# Altium schematic symbol library IC.SchLib: 142 symbols
Pins are listed as number, name and electrical type; pins without a type are passive.

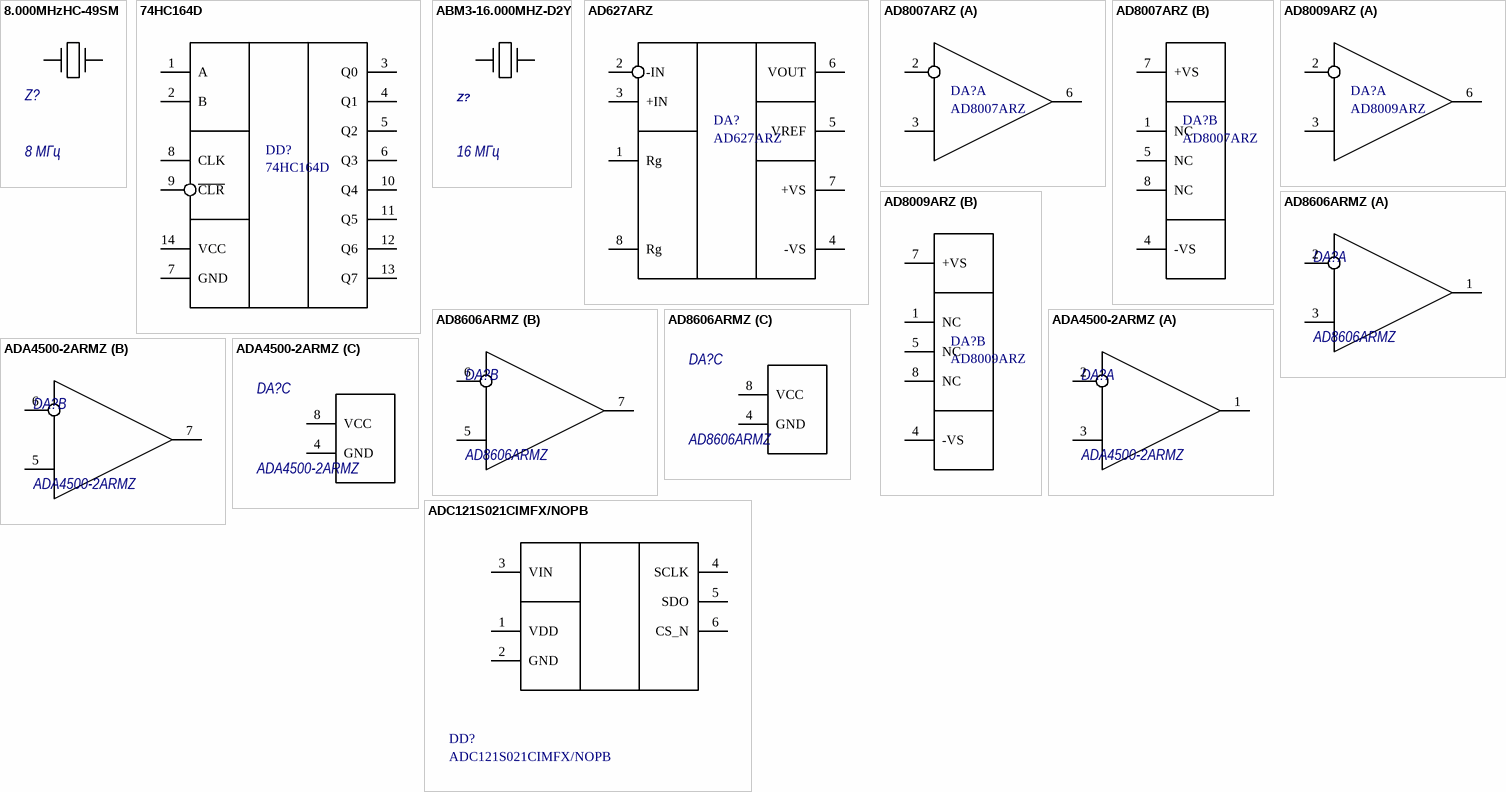
[diagram p0: symbols 8.000MHzHC-49SM to ADC121S021CIMFX/NOPB]

## 8.000MHzHC-49SM
designator Z?, comment 8 МГц
8.000MHzHC-49SM; Part Number: 8.000MHzHC-49SM; Value: 8 МГц; ComponentLink1Description: Datasheet; Manufacturer: -; Type: Quartz
footprint HC-49SM (Footprint not found)
pins: 1 OSC1, 2 OSC2

## 74HC164D
designator DD?
8-bit serial-in, parallel-out shift register; Manufacturer: Nexperia; Part Number: 74HC164D; Type: Logic
footprint SOT108-1_NEX
pins: 1 A, 2 B, 3 Q0, 4 Q1, 5 Q2, 6 Q3, 7 GND, 8 CLK, 9 ~{CLR}, 10 Q4, 11 Q5, 12 Q6, 13 Q7, 14 VCC

## ABM3-16.000MHZ-D2Y
designator Z?, comment 16 МГц
ABM3-16.000MHZ-D2Y; Manufacturer: ABRACON; Part Number: ABM3-16.000MHZ-D2Y; Value: 16 МГц; ComponentLink1Description: Datasheet; Type: Quartz
footprint ABM3
pins: 1 OSC1, 2 OSC2

## AD627ARZ
designator DA?
InstAMP; Manufacturer: Analog Devices Inc; Part Number: AD627ARZ; Type: InstAMP
footprint SOIC-8
pins: 1 Rg, 2 -IN, 3 +IN, 4 -VS (power), 5 VREF, 6 VOUT, 7 +VS (power), 8 Rg

## AD8007ARZ
designator DA?
OpAMP CFB; Manufacturer: Analog Devices; Part Number: AD8007ARZ; Type: OpAMP
footprint SOIC-8
part A pins: 2 -IN, 3 +IN, 6 VOUT
part B pins: 1 NC, 4 -VS (power), 5 NC, 7 +VS (power), 8 NC

## AD8009ARZ
designator DA?
OpAMP CFB; Manufacturer: Analog Devices; Part Number: AD8009ARZ; Type: OpAMP
footprint SOIC-8
part A pins: 2 -IN, 3 +IN, 6 VOUT
part B pins: 1 NC, 4 -VS (power), 5 NC, 7 +VS (power), 8 NC

## AD8606ARMZ
designator DA?
OpAMP VFB; Manufacturer: Analog Devices Inc; Part Number: AD8606ARMZ; Type: OpAMP; ComponentLink1Description: Datasheet
footprint MSOP-8
part A pins: 1 OUT, 2 IN-, 3 IN+
part B pins: 5 IN+, 6 IN-, 7 OUT
part C pins: 4 GND, 8 VCC

## ADA4500-2ARMZ
designator DA?
OpAMP VFB; Manufacturer: Analog Devices Inc; Part Number: ADA4500-2ARMZ; Type: OpAMP; ComponentLink1Description: Datasheet
footprint MSOP-8
part A pins: 1 OUT, 2 IN-, 3 IN+
part B pins: 5 IN+, 6 IN-, 7 OUT
part C pins: 4 GND, 8 VCC

## ADC121S021CIMFX/NOPB
designator DD?
ADC; Manufacturer: Texas Instruments; Type: ADC; Part Number: ADC121S021CIMFX/NOPB
footprint SOT23-6
pins: 1 VDD, 2 GND, 3 VIN, 4 SCLK, 5 SDO, 6 CS_N

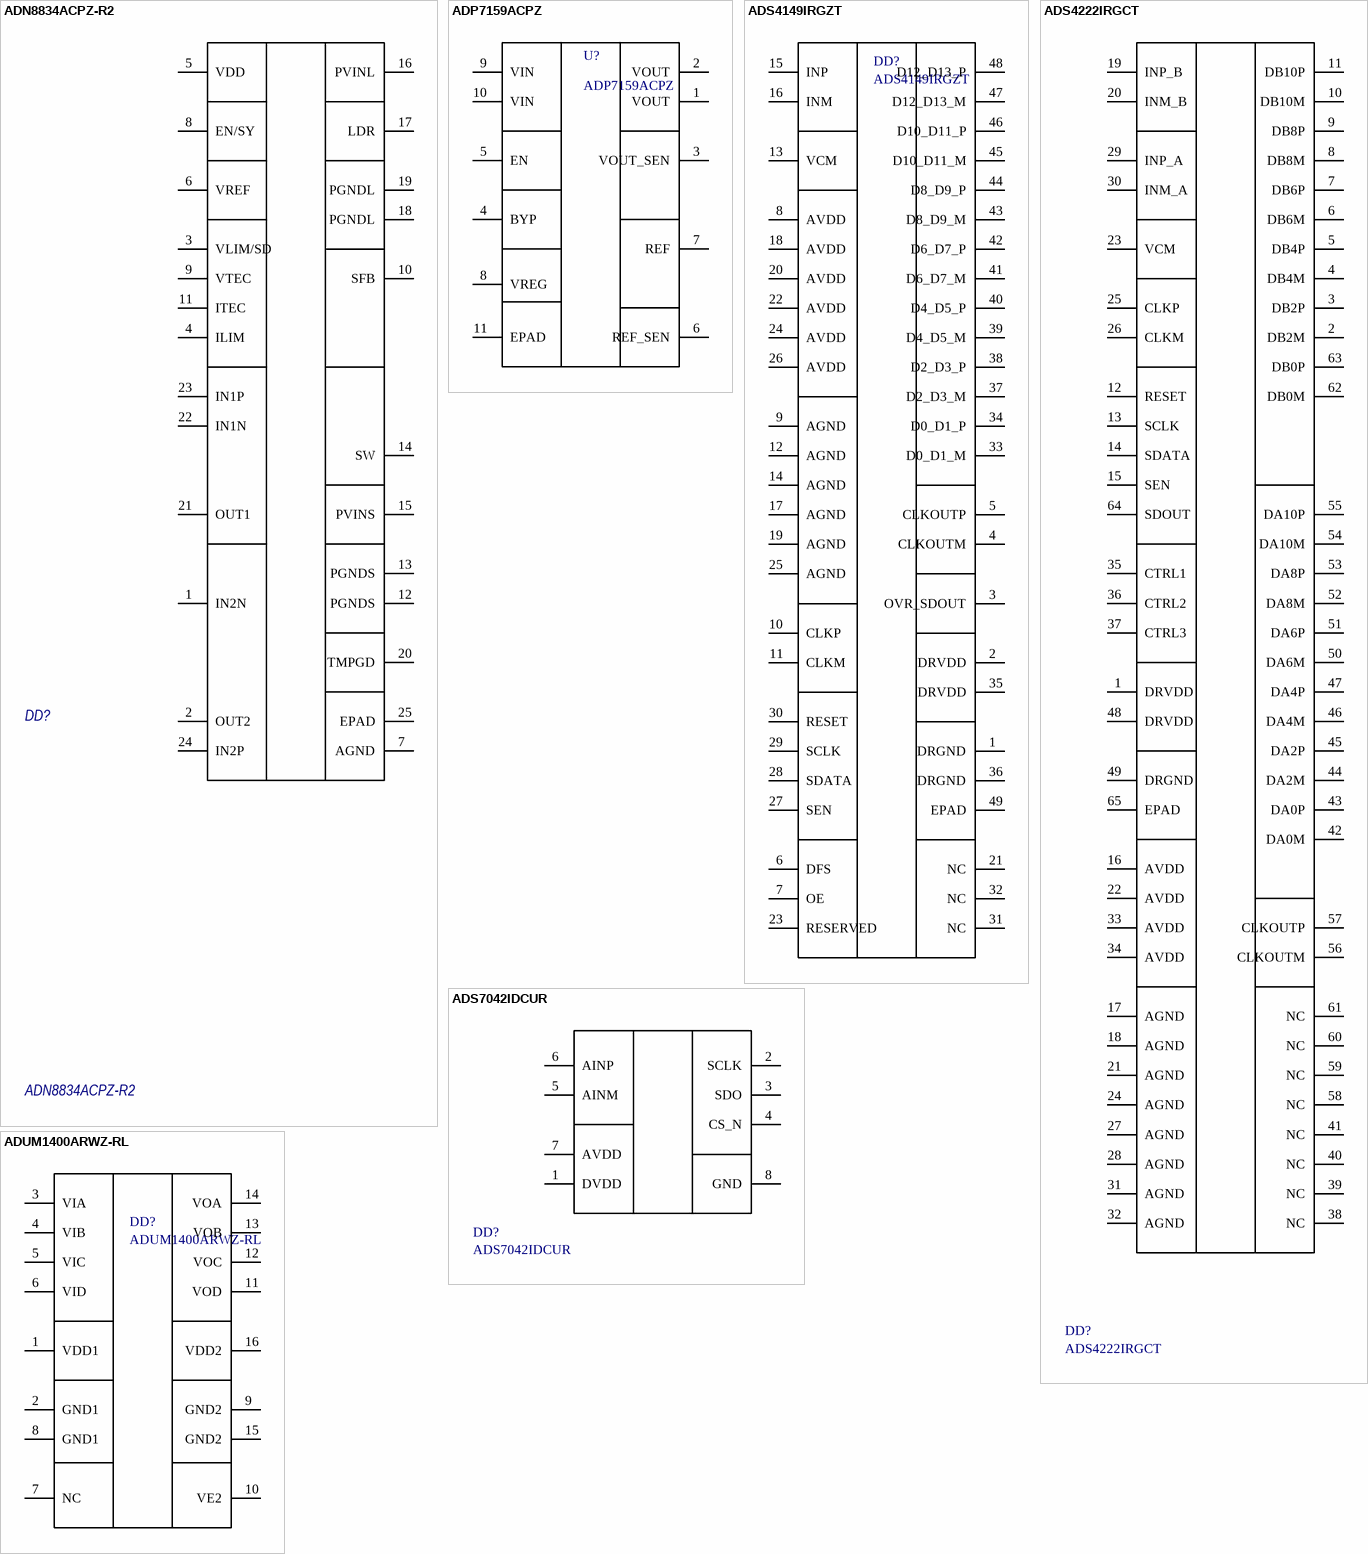
[diagram p1: symbols ADN8834ACPZ-R2 to ADUM1400ARWZ-RL]

## ADN8834ACPZ-R2
designator DD?
Ultracompact, 1.5 A Thermoelectric Cooler / (TEC) Controller; Manufacturer: Analog Devices; Part Number: ADN8834ACPZ-R2; Type: Special; ComponentLink1Description: Datasheet
footprint QFN24
pins: 1 IN2N, 2 OUT2, 3 VLIM/SD, 4 ILIM, 5 VDD, 6 VREF, 7 AGND, 8 EN/SY, 9 VTEC, 10 SFB, 11 ITEC, 12 PGNDS, 13 PGNDS, 14 SW, 15 PVINS, 16 PVINL, 17 LDR, 18 PGNDL, 19 PGNDL, 20 TMPGD, 21 OUT1, 22 IN1N, 23 IN1P, 24 IN2P, 25 EPAD

## ADP7159ACPZ
designator U?
No Description Available; Manufacturer: Analog Devices Inc; Part Number: ADP7159ACPZ; Type: DEV
footprint LFCSP(10)3x3
pins: 1 VOUT, 2 VOUT, 3 VOUT_SEN, 4 BYP, 5 EN, 6 REF_SEN, 7 REF, 8 VREG, 9 VIN, 10 VIN, 11 EPAD

## ADS4149IRGZT
designator DD?
ADC; Manufacturer: Texas Instruments; Part Number: ADS4149IRGZT; Type: ADC
footprint VQFN-48
pins: 1 DRGND, 2 DRVDD, 3 OVR_SDOUT, 4 CLKOUTM, 5 CLKOUTP, 6 DFS, 7 OE, 8 AVDD, 9 AGND, 10 CLKP, 11 CLKM, 12 AGND, 13 VCM, 14 AGND, 15 INP, 16 INM, 17 AGND, 18 AVDD, 19 AGND, 20 AVDD, 21 NC, 22 AVDD, 23 RESERVED, 24 AVDD, 25 AGND, 26 AVDD, 27 SEN, 28 SDATA, 29 SCLK, 30 RESET, 31 NC, 32 NC, 33 D0_D1_M, 34 D0_D1_P, 35 DRVDD, 36 DRGND, 37 D2_D3_M, 38 D2_D3_P, 39 D4_D5_M, 40 D4_D5_P, 41 D6_D7_M, 42 D6_D7_P, 43 D8_D9_M, 44 D8_D9_P, 45 D10_D11_M, 46 D10_D11_P, 47 D12_D13_M, 48 D12_D13_P, 49 EPAD

## ADS4222IRGCT
designator DD?
ADC; Manufacturer: Texas Instruments; Part Number: ADS4222IRGCT; Type: ADC
footprint RGC64_7P4X7P4
pins: 1 DRVDD, 2 DB2M, 3 DB2P, 4 DB4M, 5 DB4P, 6 DB6M, 7 DB6P, 8 DB8M, 9 DB8P, 10 DB10M, 11 DB10P, 12 RESET, 13 SCLK, 14 SDATA, 15 SEN, 16 AVDD, 17 AGND, 18 AGND, 19 INP_B, 20 INM_B, 21 AGND, 22 AVDD, 23 VCM, 24 AGND, 25 CLKP, 26 CLKM, 27 AGND, 28 AGND, 29 INP_A, 30 INM_A, 31 AGND, 32 AGND, 33 AVDD, 34 AVDD, 35 CTRL1, 36 CTRL2, 37 CTRL3, 38 NC, 39 NC, 40 NC, 41 NC, 42 DA0M, 43 DA0P, 44 DA2M, 45 DA2P, 46 DA4M, 47 DA4P, 48 DRVDD, 49 DRGND, 50 DA6M, 51 DA6P, 52 DA8M, 53 DA8P, 54 DA10M, 55 DA10P, 56 CLKOUTM, 57 CLKOUTP, 58 NC, 59 NC, 60 NC, 61 NC, 62 DB0M, 63 DB0P, 64 SDOUT, 65 EPAD

## ADS7042IDCUR
designator DD?
ADC; Manufacturer: Texas Instruments; Type: ADC; Part Number: ADS7042IDCUR
footprint DCU0008A_N
pins: 1 DVDD, 2 SCLK, 3 SDO, 4 CS_N, 5 AINM, 6 AINP, 7 AVDD, 8 GND

## ADUM1400ARWZ-RL
designator DD?
ISO; Manufacturer: Analog Devices; Part Number: ADUM1400ARWZ-RL; Type: ISO
footprint SOIC-Wide-16
pins: 1 VDD1, 2 GND1, 3 VIA, 4 VIB, 5 VIC, 6 VID, 7 NC, 8 GND1, 9 GND2, 10 VE2, 11 VOD, 12 VOC, 13 VOB, 14 VOA, 15 GND2, 16 VDD2

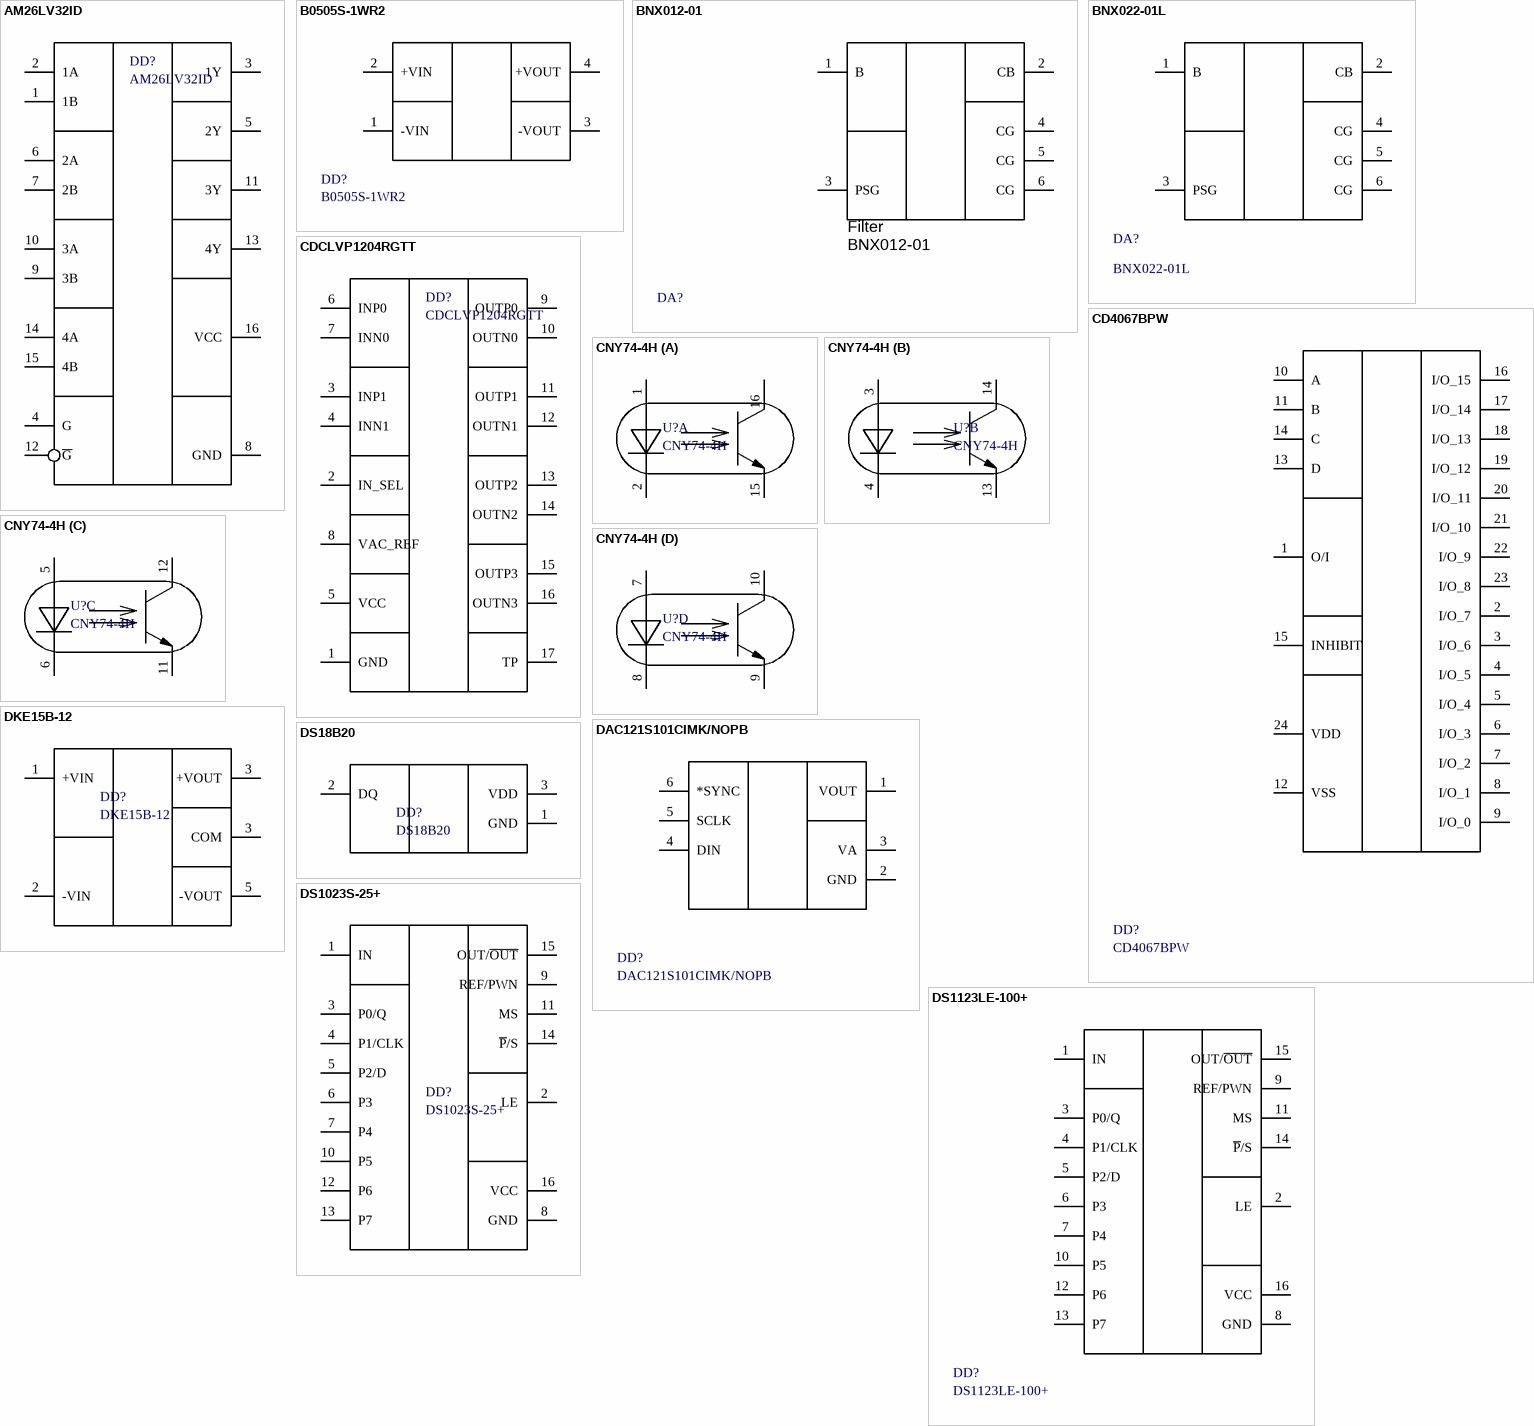
[diagram p2: symbols AM26LV32ID to DS1123LE-100+]

## AM26LV32ID
designator DD?
High-Speed Quadruple Differential Line Receiver; Manufacturer: Texas Instruments; Part Number: AM26LV32ID; Type: Logic
footprint SOIC-16
pins: 1 1B, 2 1A, 3 1Y, 4 G, 5 2Y, 6 2A, 7 2B, 8 GND, 9 3B, 10 3A, 11 3Y, 12 ~{G}, 13 4Y, 14 4A, 15 4B, 16 VCC

## B0505S-1WR2
designator DD?
Switching regulator, 5V; Manufacturer: Mornsun; Part Number: B0505S-1WR2; Type: ISO DC/DC
footprint TME-1W-SINGLE
pins: 1 -VIN (power), 2 +VIN (power), 3 -VOUT (power), 4 +VOUT (power)

## BNX012-01
designator DA?  Type: Filter  (hidden comment: BNX012-01)
LC EMI Filter 5th Order Low Pass 2 Channel 15A Block, 4 Lead; Manufacturer: Murata; Part Number: BNX012-01
footprint FIL_BNX012-01
pins: 1 B, 2 CB, 3 PSG, 4 CG, 5 CG, 6 CG

## BNX022-01L
designator DA?
LC EMI Filter 5th Order Low Pass 2 Channel C = 1ÂµF 20A 4-SMD, No Lead; Manufacturer: Murata; Part Number: BNX022-01L; Type: Filter
footprint FIL_BNX022-01L
pins: 1 B, 2 CB, 3 PSG, 4 CG, 5 CG, 6 CG

## CD4067BPW
designator DD?
Multiplexers/Demultiplexers; Manufacturer: Texas Instruments; Part Number: CD4067BPW; Type: Logic
footprint PW24
pins: 1 O/I, 2 I/O_7, 3 I/O_6, 4 I/O_5, 5 I/O_4, 6 I/O_3, 7 I/O_2, 8 I/O_1, 9 I/O_0, 10 A, 11 B, 12 VSS, 13 D, 14 C, 15 INHIBIT, 16 I/O_15, 17 I/O_14, 18 I/O_13, 19 I/O_12, 20 I/O_11, 21 I/O_10, 22 I/O_9, 23 I/O_8, 24 VDD

## CDCLVP1204RGTT
designator DD?
Clock buffers; Manufacturer: Texas Instruments; Part Number: CDCLVP1204RGTT; Type: Clock buffers
footprint VQFN(16)3x3
pins: 1 GND, 2 IN_SEL, 3 INP1, 4 INN1, 5 VCC, 6 INP0, 7 INN0, 8 VAC_REF, 9 OUTP0, 10 OUTN0, 11 OUTP1, 12 OUTN1, 13 OUTP2, 14 OUTN2, 15 OUTP3, 16 OUTN3, 17 TP

## CNY74-4H
designator U?
Optocoupler, Phototransistor; Manufacturer: Vishay; Part Number: CNY74-4H; Type: Optocoupler
footprint DIP16 (Footprint not found)
part A pins: 1 A, 2 C, 15 C, 16 E
part B pins: 3 C, 4 A, 13 E, 14 C
part C pins: 5 A, 6 C, 11 C, 12 E
part D pins: 7 C, 8 A, 9 E, 10 C

## DAC121S101CIMK/NOPB
designator DD?
No Description Available; Manufacturer: Texas Instrument; Part Number: DAC121S101CIMK/NOPB; Type: DAC
footprint SOT23-6
pins: 1 VOUT, 2 GND, 3 VA, 4 DIN, 5 SCLK, 6 *SYNC

## DKE15B-12
designator DD?
ISO DC/DC, +- 12V; Manufacturer: MEAN WELL; Part Number: DKE15B-12; Type: ISO DC/DC
footprint DKE-15
pins: 1 +VIN (power), 2 -VIN (power), 3 +VOUT (power), 3 COM (power), 5 -VOUT (power)

## DS18B20
designator DD?
Manufacturer: MAXIM; Part Number: DS18B20; Type: TEMP
footprint TO-92
pins: 1 GND, 2 DQ, 3 VDD

## DS1023S-25+
designator DD?
Delay; Manufacturer: Maxim Integrated Products; Part Number: DS1023S-25+; Type: Logic
footprint SOIC-Wide-16
pins: 1 IN, 2 LE, 3 P0/Q, 4 P1/CLK, 5 P2/D, 6 P3, 7 P4, 8 GND, 9 REF/PWN, 10 P5, 11 MS, 12 P6, 13 P7, 14 ~{P}/S, 15 OUT/~{OUT}, 16 VCC

## DS1123LE-100+
designator DD?
Delay; Manufacturer: Maxim Integrated Products; Part Number: DS1123LE-100+; Type: Logic
footprint 21-0066J_16_MXM
pins: 1 IN, 2 LE, 3 P0/Q, 4 P1/CLK, 5 P2/D, 6 P3, 7 P4, 8 GND, 9 REF/PWN, 10 P5, 11 MS, 12 P6, 13 P7, 14 ~{P}/S, 15 OUT/~{OUT}, 16 VCC

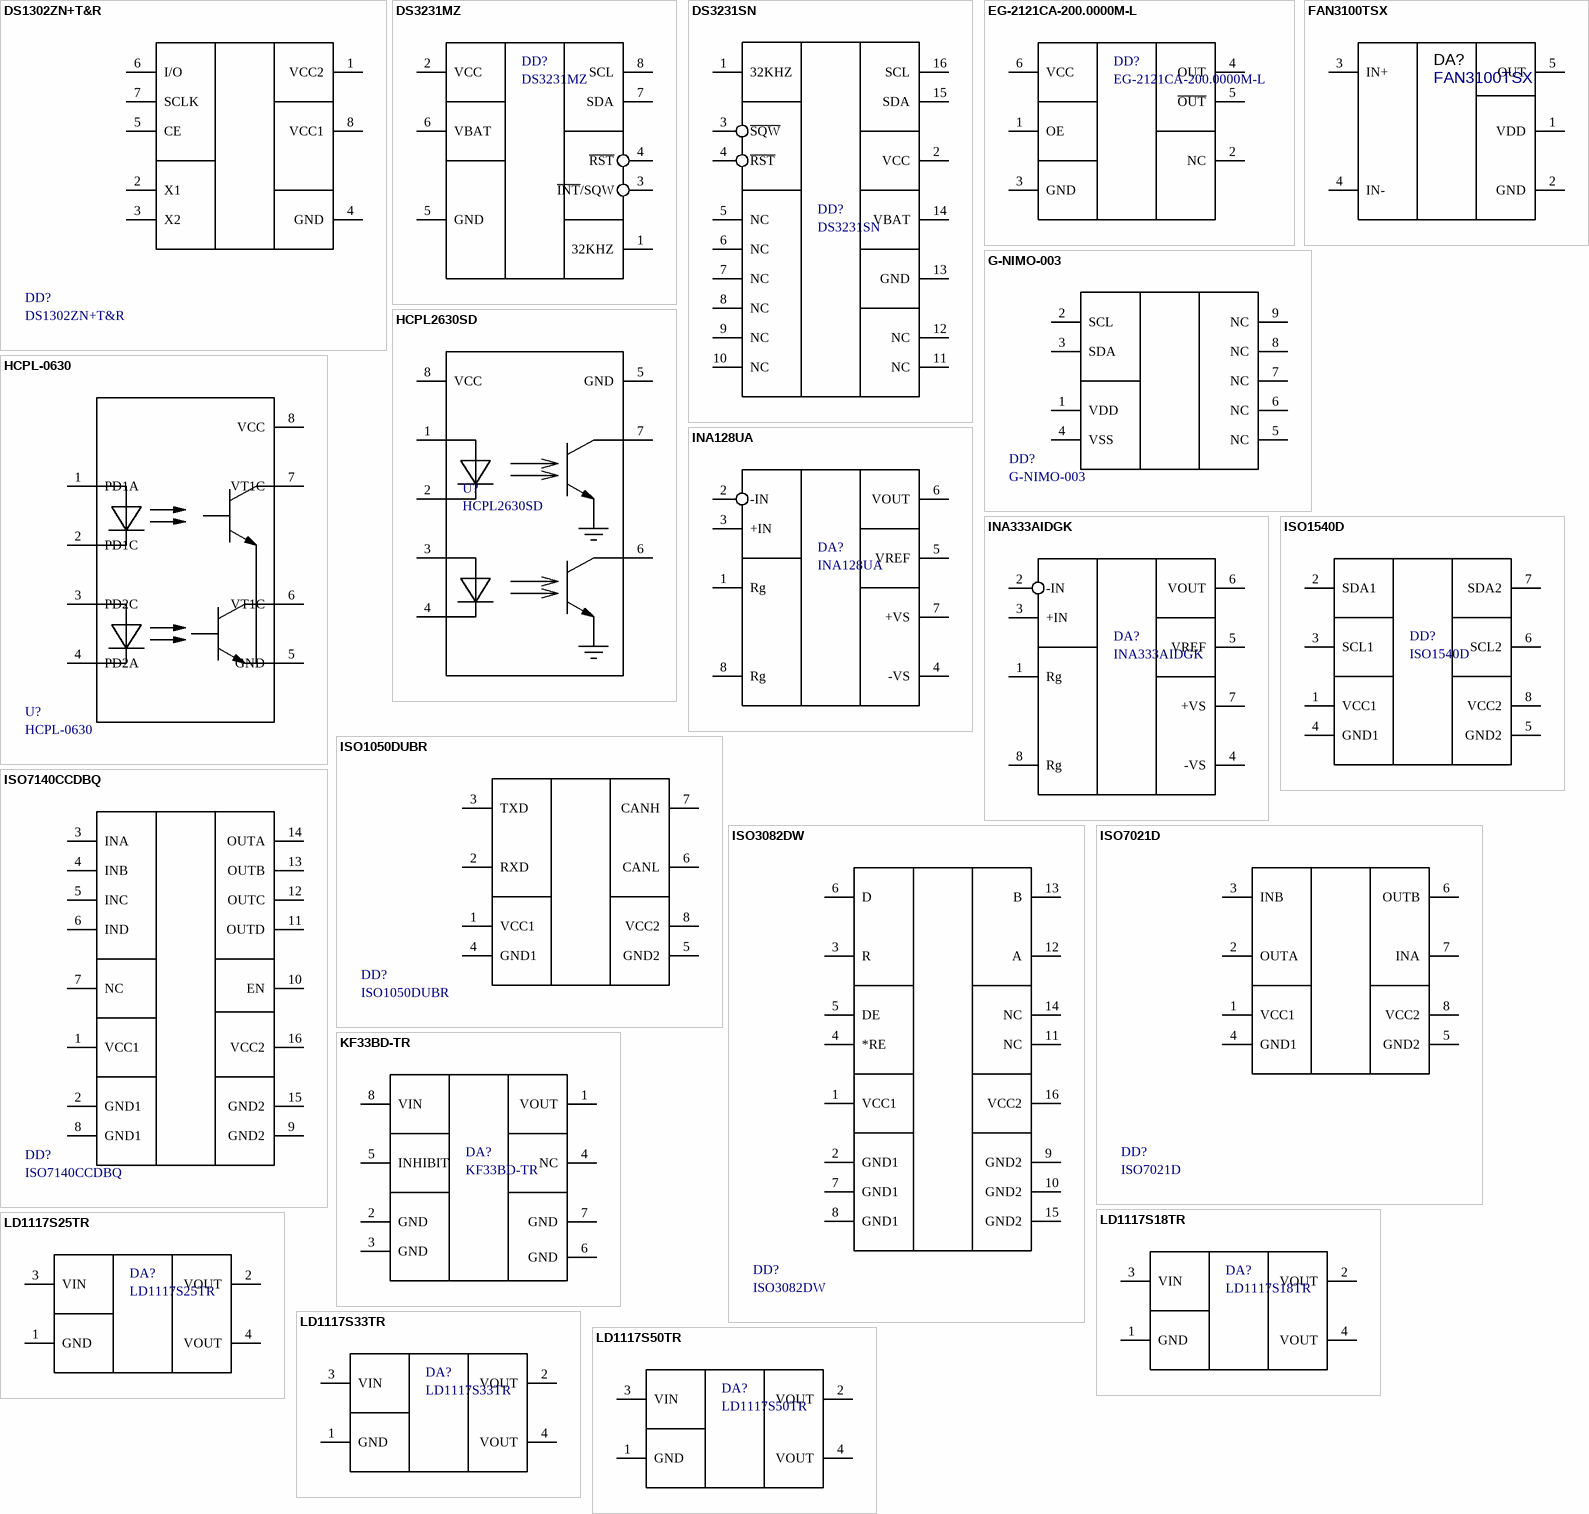
[diagram p3: symbols DS1302ZN+T&R to LD1117S50TR]

## DS1302ZN+T&R
designator DD?
RTC; Manufacturer: Maxim Integrated Products; Part Number: DS1302ZN+T&R; Type: RTC
footprint 21-0041B_8_MXM
pins: 1 VCC2, 2 X1, 3 X2, 4 GND, 5 CE, 6 I/O, 7 SCLK, 8 VCC1

## DS3231MZ
designator DD?
RTC, I2C; Manufacturer: Maxim Integrated Products; Part Number: DS3231MZ; Type: RTC
footprint SOIC-8
pins: 1 32KHZ, 2 VCC, 3 ~{INT}/SQW, 4 ~{RST}, 5 GND, 6 VBAT, 7 SDA, 8 SCL

## DS3231SN
designator DD?
RTC, I2C; Manufacturer: Maxim Integrated Products; Part Number: DS3231SN; Type: RTC
footprint SOIC-Wide-16
pins: 1 32KHZ, 2 VCC, 3 ~{SQW}, 4 ~{RST}, 5 NC, 6 NC, 7 NC, 8 NC, 9 NC, 10 NC, 11 NC, 12 NC, 13 GND, 14 VBAT, 15 SDA, 16 SCL

## EG-2121CA-200.0000M-L
designator DD?
Standard Clock Oscillators 200MHz, LVDS; Manufacturer: EPSON; Type: Standard Clock Oscillators; Part Number: EG-2121CA-200.0000M-L
footprint SMD-6
pins: 1 OE, 2 NC, 3 GND, 4 OUT, 5 ~{OUT}, 6 VCC

## FAN3100TSX
designator DA?
Low-Side Single 2 A High-Speed; Manufacturer: Fairchild; Part Number: FAN3100TSX; Type: MOSFET Driver
footprint SOT23-5
pins: 1 VDD, 2 GND, 3 IN+, 4 IN-, 5 OUT

## G-NIMO-003
designator DD?
Manufacturer: TE Connectivity; Part Number: G-NIMO-003; Type: TEMP
footprint TSYS02D_TEC
pins: 1 VDD, 2 SCL, 3 SDA, 4 VSS, 5 NC, 6 NC, 7 NC, 8 NC, 9 NC

## HCPL2630SD
designator U?
Optocoupler, Phototransistor, Logic Gate; Manufacturer: ON Semiconductor; Part Number: HCPL2630SD; Type: Optocoupler
footprint SMD-8 (Footprint not found)
pins: 1 A, 2 C, 3 A, 4 C, 5 GND, 6 C, 7 C, 8 VCC

## HCPL-0630
designator U?
OptPair; Manufacturer: Broadcom; Part Number: HCPL-0630; Type: OptPair
footprint SMD8_9P91X6P86_ONS
pins: 1 PD1A, 2 PD1C, 3 PD2C, 4 PD2A, 5 GND, 6 VT1C, 7 VT1C, 8 VCC

## INA128UA
designator DA?
InstAMP; Manufacturer: Texas Instruments; Part Number: INA128UA; Type: InstAMP
footprint SOIC-8
pins: 1 Rg, 2 -IN, 3 +IN, 4 -VS (power), 5 VREF, 6 VOUT, 7 +VS (power), 8 Rg

## INA333AIDGK
designator DA?
InstAMP; Manufacturer: Texas Instruments; Part Number: INA333AIDGK; Type: InstAMP
footprint MSOP-8
pins: 1 Rg, 2 -IN, 3 +IN, 4 -VS (power), 5 VREF, 6 VOUT, 7 +VS (power), 8 Rg

## ISO1050DUBR
designator DD?
CAN transceiver; Manufacturer: Texas Instruments; Type: ISO; Part Number: ISO1050DUBR
footprint DUB0008A_N
pins: 1 VCC1, 2 RXD, 3 TXD, 4 GND1, 5 GND2, 6 CANL, 7 CANH, 8 VCC2

## ISO1540D
designator DD?
I2C ISO; Manufacturer: Texas Instruments; Part Number: ISO1540D; Type: ISO
footprint SOIC-8
pins: 1 VCC1, 2 SDA1, 3 SCL1, 4 GND1, 5 GND2, 6 SCL2, 7 SDA2, 8 VCC2

## ISO3082DW
designator DD?
RS-485 Transceivers; Manufacturer: Texas Instruments; Part Number: ISO3082DW; Type: ISO
footprint SOIC-Wide-16
pins: 1 VCC1 (power), 2 GND1 (power), 3 R, 4 *RE, 5 DE, 6 D, 7 GND1 (power), 8 GND1 (power), 9 GND2 (power), 10 GND2 (power), 11 NC, 12 A, 13 B, 14 NC, 15 GND2 (power), 16 VCC2 (power)

## ISO7021D
designator DD?
ISO; Manufacturer: Texas Instruments; Part Number: ISO7021D; Type: ISO
footprint SOIC-8
pins: 1 VCC1, 2 OUTA, 3 INB, 4 GND1, 5 GND2, 6 OUTB, 7 INA, 8 VCC2

## ISO7140CCDBQ
designator DD?
ISO; Manufacturer: Texas Instruments; Type: ISO; Part Number: ISO7140CCDBQ
footprint DBQ0016A
pins: 1 VCC1, 2 GND1, 3 INA, 4 INB, 5 INC, 6 IND, 7 NC, 8 GND1, 9 GND2, 10 EN, 11 OUTD, 12 OUTC, 13 OUTB, 14 OUTA, 15 GND2, 16 VCC2

## KF33BD-TR
designator DA?
Linear regulator, 3V3; Manufacturer: STMicroelectronics; Part Number: KF33BD-TR; Type: Linear regulator
footprint SO-8
pins: 1 VOUT, 2 GND, 3 GND, 4 NC, 5 INHIBIT, 6 GND, 7 GND, 8 VIN

## LD1117S18TR
designator DA?
Linear regulator, 1V8; Manufacturer: STMicroelectronics; Part Number: LD1117S18TR; Type: Linear regulator
footprint SOT-223
pins: 1 GND, 2 VOUT, 3 VIN, 4 VOUT

## LD1117S25TR
designator DA?
Linear regulator, 2V5; Manufacturer: STMicroelectronics; Part Number: LD1117S25TR; Type: Linear regulator
footprint SOT-223
pins: 1 GND, 2 VOUT, 3 VIN, 4 VOUT

## LD1117S33TR
designator DA?
Linear regulator, 3V3; Manufacturer: STMicroelectronics; Part Number: LD1117S33TR; Type: Linear regulator
footprint SOT-223
pins: 1 GND, 2 VOUT, 3 VIN, 4 VOUT

## LD1117S50TR
designator DA?
Linear regulator, 5V; Manufacturer: STMicroelectronics; Part Number: LD1117S50TR; Type: Linear regulator
footprint SOT-223
pins: 1 GND, 2 VOUT, 3 VIN, 4 VOUT

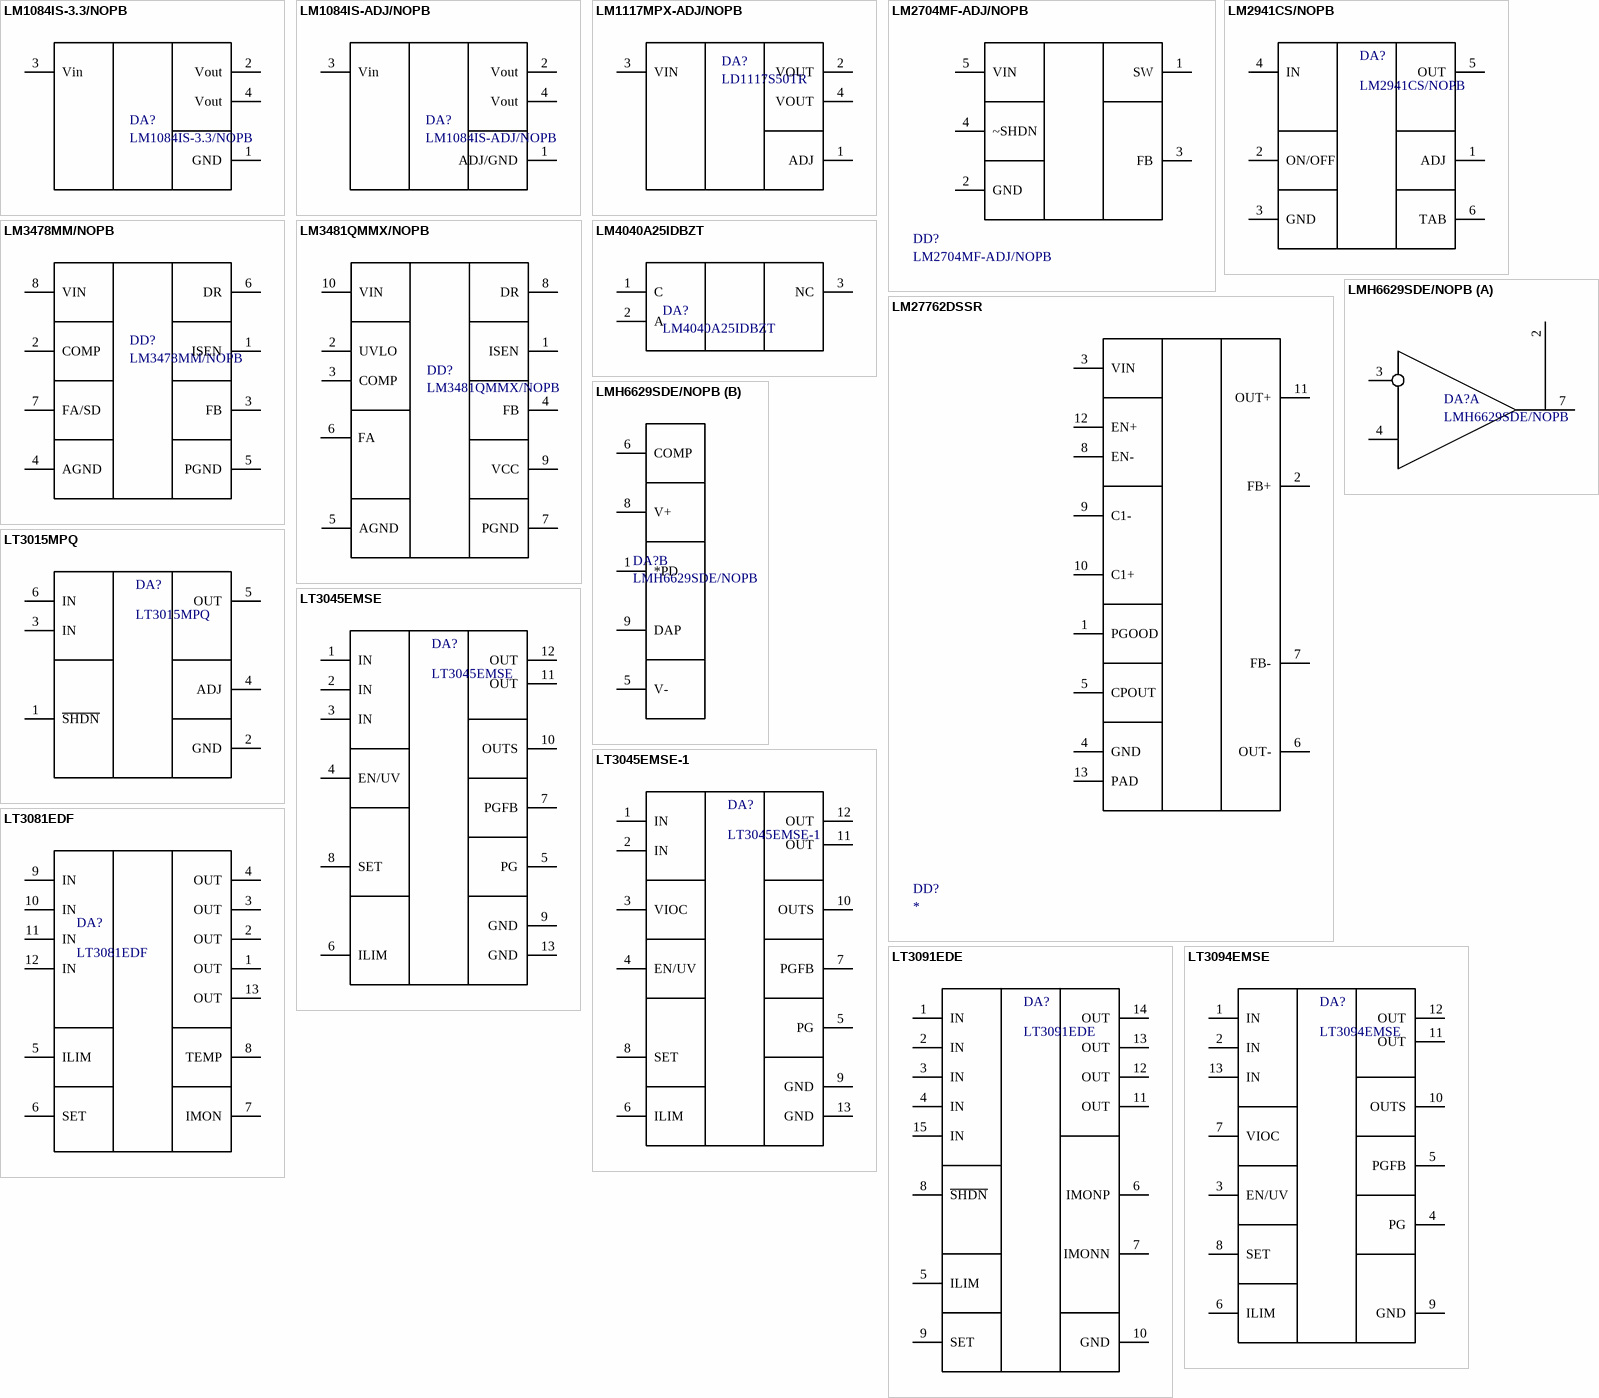
[diagram p4: symbols LM1084IS-3.3/NOPB to LT3094EMSE]

## LM1084IS-3.3/NOPB
designator DA?
Linear regulator, ADJ; Manufacturer: Texas Instruments; Type: Linear regulator; Part Number: LM1084IS-3.3/NOPB
footprint TO-263-3
pins: 1 GND, 2 Vout, 3 Vin, 4 Vout

## LM1084IS-ADJ/NOPB
designator DA?
Linear regulator, ADJ; Manufacturer: Texas Instruments; Type: Linear regulator; Part Number: LM1084IS-ADJ/NOPB
footprint TO-263-3
pins: 1 ADJ/GND, 2 Vout, 3 Vin, 4 Vout

## LM1117MPX-ADJ/NOPB
designator DA?, comment LD1117S50TR
Linear regulator, ADJ; Manufacturer: Texas Instruments; Part Number: LM1117MPX-ADJ/NOPB; Type: Linear regulator
footprint SOT-223
pins: 1 ADJ, 2 VOUT, 3 VIN, 4 VOUT

## LM2704MF-ADJ/NOPB
designator DD?
Switching regulator, ADJ; Manufacturer: Texas Instruments; Part Number: LM2704MF-ADJ/NOPB; Type: Switching regulator
footprint MF05A
pins: 1 SW, 2 GND, 3 FB, 4 ~SHDN, 5 VIN

## LM2941CS/NOPB
designator DA?
Linear regulator, ADJ; Manufacturer: Texas Instruments; Type: Linear regulator; Part Number: LM2941CS/NOPB
footprint TO-263-5
pins: 1 ADJ, 2 ON/OFF, 3 GND, 4 IN, 5 OUT, 6 TAB

## LM3478MM/NOPB
designator DD?
Switching regulator, ADJ, controller; Manufacturer: Texas Instruments; Part Number: LM3478MM/NOPB; Type: Switching regulator
footprint MUA08A
pins: 1 ISEN, 2 COMP, 3 FB, 4 AGND, 5 PGND, 6 DR, 7 FA/SD, 8 VIN

## LM3481QMMX/NOPB
designator DD?
Switching regulator, ADJ, controller; Manufacturer: Texas Instruments; Type: Switching regulator; Part Number: LM3481QMMX/NOPB
footprint DGS0010A_N
pins: 1 ISEN, 2 UVLO, 3 COMP, 4 FB, 5 AGND, 6 FA, 7 PGND, 8 DR, 9 VCC, 10 VIN

## LM4040A25IDBZT
designator DA?
Shunt Voltage Reference 2V5; Manufacturer: Texas Instruments; Part Number: LM4040A25IDBZT; Value: 2V5; Type: Voltage References
footprint DBZ3_TEX
pins: 1 C, 2 A, 3 NC

## LM27762DSSR
designator DD?
Switching regulator, ADJ; Part Number: LM27762DSSR; Manufacturer: Texas Instruments; Type: Switching regulator
footprint DSS0012B
pins: 1 PGOOD, 2 FB+, 3 VIN, 4 GND, 5 CPOUT, 6 OUT-, 7 FB-, 8 EN-, 9 C1-, 10 C1+, 11 OUT+, 12 EN+, 13 PAD

## LMH6629SDE/NOPB
designator DA?
OpAMP VFB; Manufacturer: Texas Instruments; Part Number: LMH6629SDE/NOPB; Type: OpAMP
footprint SDA08A
part A pins: 2 FB, 3 IN-, 4 IN+, 7 OUT
part B pins: 1 *PD, 5 V- (power), 6 COMP, 8 V+ (power), 9 DAP

## LT3015MPQ
designator DA?
Negative Linear regulator, ADJ; Manufacturer: Analog Devices Inc; Part Number: LT3015MPQ; Type: Linear regulator
footprint TO-263-5
pins: 1 ~{SHDN}, 2 GND, 3 IN, 4 ADJ, 5 OUT, 6 IN

## LT3045EMSE
designator DA?
Linear regulator, ADJ; Manufacturer: Analog Devices Inc; Part Number: LT3045EMSE; Type: Linear regulator
footprint MSOP-12_PP
pins: 1 IN, 2 IN, 3 IN, 4 EN/UV, 5 PG, 6 ILIM, 7 PGFB, 8 SET, 9 GND, 10 OUTS, 11 OUT, 12 OUT, 13 GND

## LT3045EMSE-1
designator DA?
Linear regulator, ADJ; Manufacturer: Analog Devices Inc; Part Number: LT3045EMSE-1; Type: Linear regulator
footprint MSOP-12_PP
pins: 1 IN, 2 IN, 3 VIOC, 4 EN/UV, 5 PG, 6 ILIM, 7 PGFB, 8 SET, 9 GND, 10 OUTS, 11 OUT, 12 OUT, 13 GND

## LT3081EDF
designator DA?
Linear regulator, ADJ; Manufacturer: Analog Devices Inc; Part Number: LT3081EDF; Type: Linear regulator
footprint DFN-12(4X4)
pins: 1 OUT, 2 OUT, 3 OUT, 4 OUT, 5 ILIM, 6 SET, 7 IMON, 8 TEMP, 9 IN, 10 IN, 11 IN, 12 IN, 13 OUT

## LT3091EDE
designator DA?
Negative Linear regulator, ADJ; Manufacturer: Analog Devices Inc; Part Number: LT3091EDE; Type: Linear regulator
footprint DFN-14(4x3)
pins: 1 IN, 2 IN, 3 IN, 4 IN, 5 ILIM, 6 IMONP, 7 IMONN, 8 ~{SHDN}, 9 SET, 10 GND, 11 OUT, 12 OUT, 13 OUT, 14 OUT, 15 IN

## LT3094EMSE
designator DA?
Negative Linear regulator, ADJ; Manufacturer: Analog Devices Inc; Part Number: LT3094EMSE; Type: Linear regulator
footprint MSOP-12_PP
pins: 1 IN, 2 IN, 3 EN/UV, 4 PG, 5 PGFB, 6 ILIM, 7 VIOC, 8 SET, 9 GND, 10 OUTS, 11 OUT, 12 OUT, 13 IN

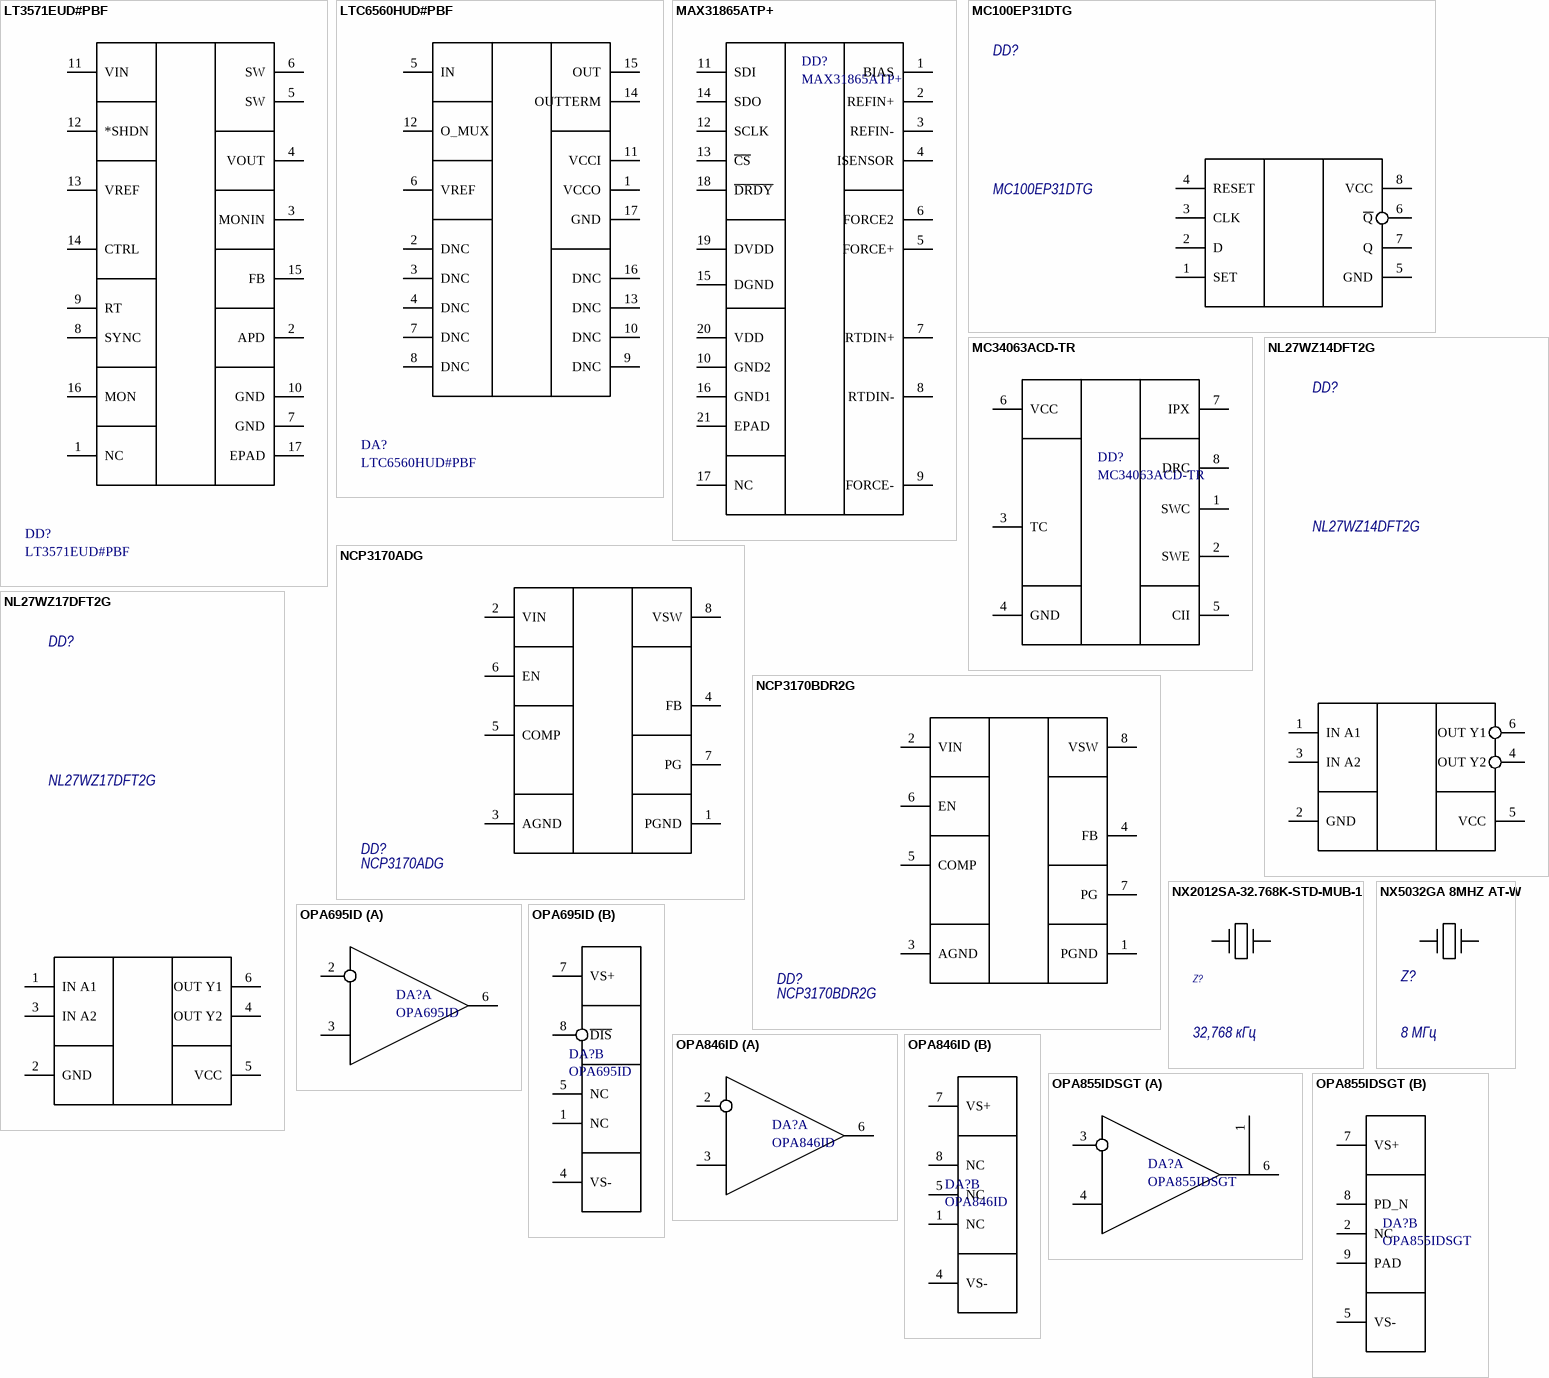
[diagram p5: symbols LT3571EUD#PBF to OPA855IDSGT]

## LT3571EUD#PBF
designator DD?
APD BIAS; Manufacturer: Linear Technology; Part Number: LT3571EUD#PBF; Type: Special
footprint VQFN(16)3x3
pins: 1 NC, 2 APD, 3 MONIN, 4 VOUT, 5 SW, 6 SW, 7 GND, 8 SYNC, 9 RT, 10 GND, 11 VIN, 12 *SHDN, 13 VREF, 14 CTRL, 15 FB, 16 MON, 17 EPAD

## LTC6560HUD#PBF
designator DA?
TIA; Manufacturer: Analog Devices Inc; Part Number: LTC6560HUD#PBF; Type: TIA
footprint QFN-16 (Footprint not found)
pins: 1 VCCO, 2 DNC, 3 DNC, 4 DNC, 5 IN, 6 VREF, 7 DNC, 8 DNC, 9 DNC, 10 DNC, 11 VCCI, 12 O_MUX, 13 DNC, 14 OUTTERM, 15 OUT, 16 DNC, 17 GND

## MAX31865ATP+
designator DD?
Manufacturer: Maxim Integrated; Part Number: MAX31865ATP+; Type: Special
footprint VQFN(20)5x5
pins: 1 BIAS, 2 REFIN+, 3 REFIN-, 4 ISENSOR, 5 FORCE+, 6 FORCE2, 7 RTDIN+, 8 RTDIN-, 9 FORCE-, 10 GND2, 11 SDI, 12 SCLK, 13 ~{CS}, 14 SDO, 15 DGND, 16 GND1, 17 NC, 18 ~{DRDY}, 19 DVDD, 20 VDD, 21 EPAD

## MC100EP31DTG
designator DD?
D flip‐flop; Manufacturer: On Semiconductor; Part Number: MC100EP31DTG; Type: Logic; ComponentLink1Description: Datasheet
footprint TSSOP8
pins: 1 SET, 2 D, 3 CLK, 4 RESET, 5 GND, 6 ~{Q}, 7 Q, 8 VCC

## MC34063ACD-TR
designator DD?
Switching regulator; Manufacturer: STMicroelectronics; Part Number: MC34063ACD-TR; Type: Switching regulator
footprint SO-8
pins: 1 SWC, 2 SWE, 3 TC, 4 GND, 5 CII, 6 VCC, 7 IPX, 8 DRC

## NCP3170ADG
designator DD?
Switching regulator, Buck, ADJ; Manufacturer: On Semiconductor; Part Number: NCP3170ADG; Type: Switching regulator
footprint SOIC-8
pins: 1 PGND, 2 VIN, 3 AGND, 4 FB, 5 COMP, 6 EN, 7 PG, 8 VSW

## NCP3170BDR2G
designator DD?
Switching regulator, ADJ; Manufacturer: On Semiconductor; Part Number: NCP3170BDR2G; Type: Switching regulator; ComponentLink1URL: https://www.onsemi.com/pub/Collateral/NCP3170-D.PDF; ComponentLink1Description: Datasheet
footprint SOIC-8
pins: 1 PGND, 2 VIN, 3 AGND, 4 FB, 5 COMP, 6 EN, 7 PG, 8 VSW

## NL27WZ14DFT2G
designator DD?
Dual Schmitt-Trigger / Inverter; Manufacturer: On Semiconductor; Part Number: NL27WZ14DFT2G; Type: Logic; ComponentLink1Description: Datasheet
footprint SOT363
pins: 1 IN A1, 2 GND, 3 IN A2, 4 OUT Y2, 5 VCC, 6 OUT Y1

## NL27WZ17DFT2G
designator DD?
Dual Non-Inverting Schmitt / Trigger Buffer; Manufacturer: On Semiconductor; Part Number: NL27WZ17DFT2G; Type: Logic; ComponentLink1Description: Datasheet
footprint SOT363
pins: 1 IN A1, 2 GND, 3 IN A2, 4 OUT Y2, 5 VCC, 6 OUT Y1

## NX2012SA-32.768K-STD-MUB-1
designator Z?, comment 32,768 кГц
NX2012SA-32.768K-STD-MUB-1; Manufacturer: NDK; Part Number: NX2012SA-32.768K-STD-MUB-1; Value: 32,768 кГц; ComponentLink1Description: Datasheet; Type: Quartz
footprint XTAL_NX2012SA_NDK (Footprint not found)
pins: 1 OSC1, 2 OSC2

## NX5032GA 8MHZ AT-W
designator Z?, comment 8 МГц
NX5032GA 8MHZ AT-W; Manufacturer: NDK; Part Number: NX5032GA 8MHZ AT-W; Value: 8 МГц; ComponentLink1Description: Datasheet; Type: Quartz
footprint ABM3
pins: 1 OSC1, 2 OSC2

## OPA695ID
designator DA?
OpAMP CFB; Manufacturer: Texas Instruments; Part Number: OPA695ID; Type: OpAMP
footprint SOIC-8
part A pins: 2 INVERTINGINPUT, 3 NONINVERTINGINPUT, 6 OUTPUT
part B pins: 1 NC, 4 VS-, 5 NC, 7 VS+, 8 ~{DIS}

## OPA846ID
designator DA?
OpAMP VFB; Manufacturer: Texas Instruments; Part Number: OPA846ID; Type: OpAMP
footprint SOIC-8
part A pins: 2 INVERTINGINPUT, 3 NONINVERTINGINPUT, 6 OUTPUT
part B pins: 1 NC, 4 VS-, 5 NC, 7 VS+, 8 NC

## OPA855IDSGT
designator DA?
OpAMP VFB; Manufacturer: Texas Instruments; Type: OpAMP; Part Number: OPA855IDSGT
footprint DSG0008A
part A pins: 1 FB, 3 IN-, 4 IN+, 6 OUT
part B pins: 2 NC, 5 VS-, 7 VS+, 8 PD_N, 9 PAD

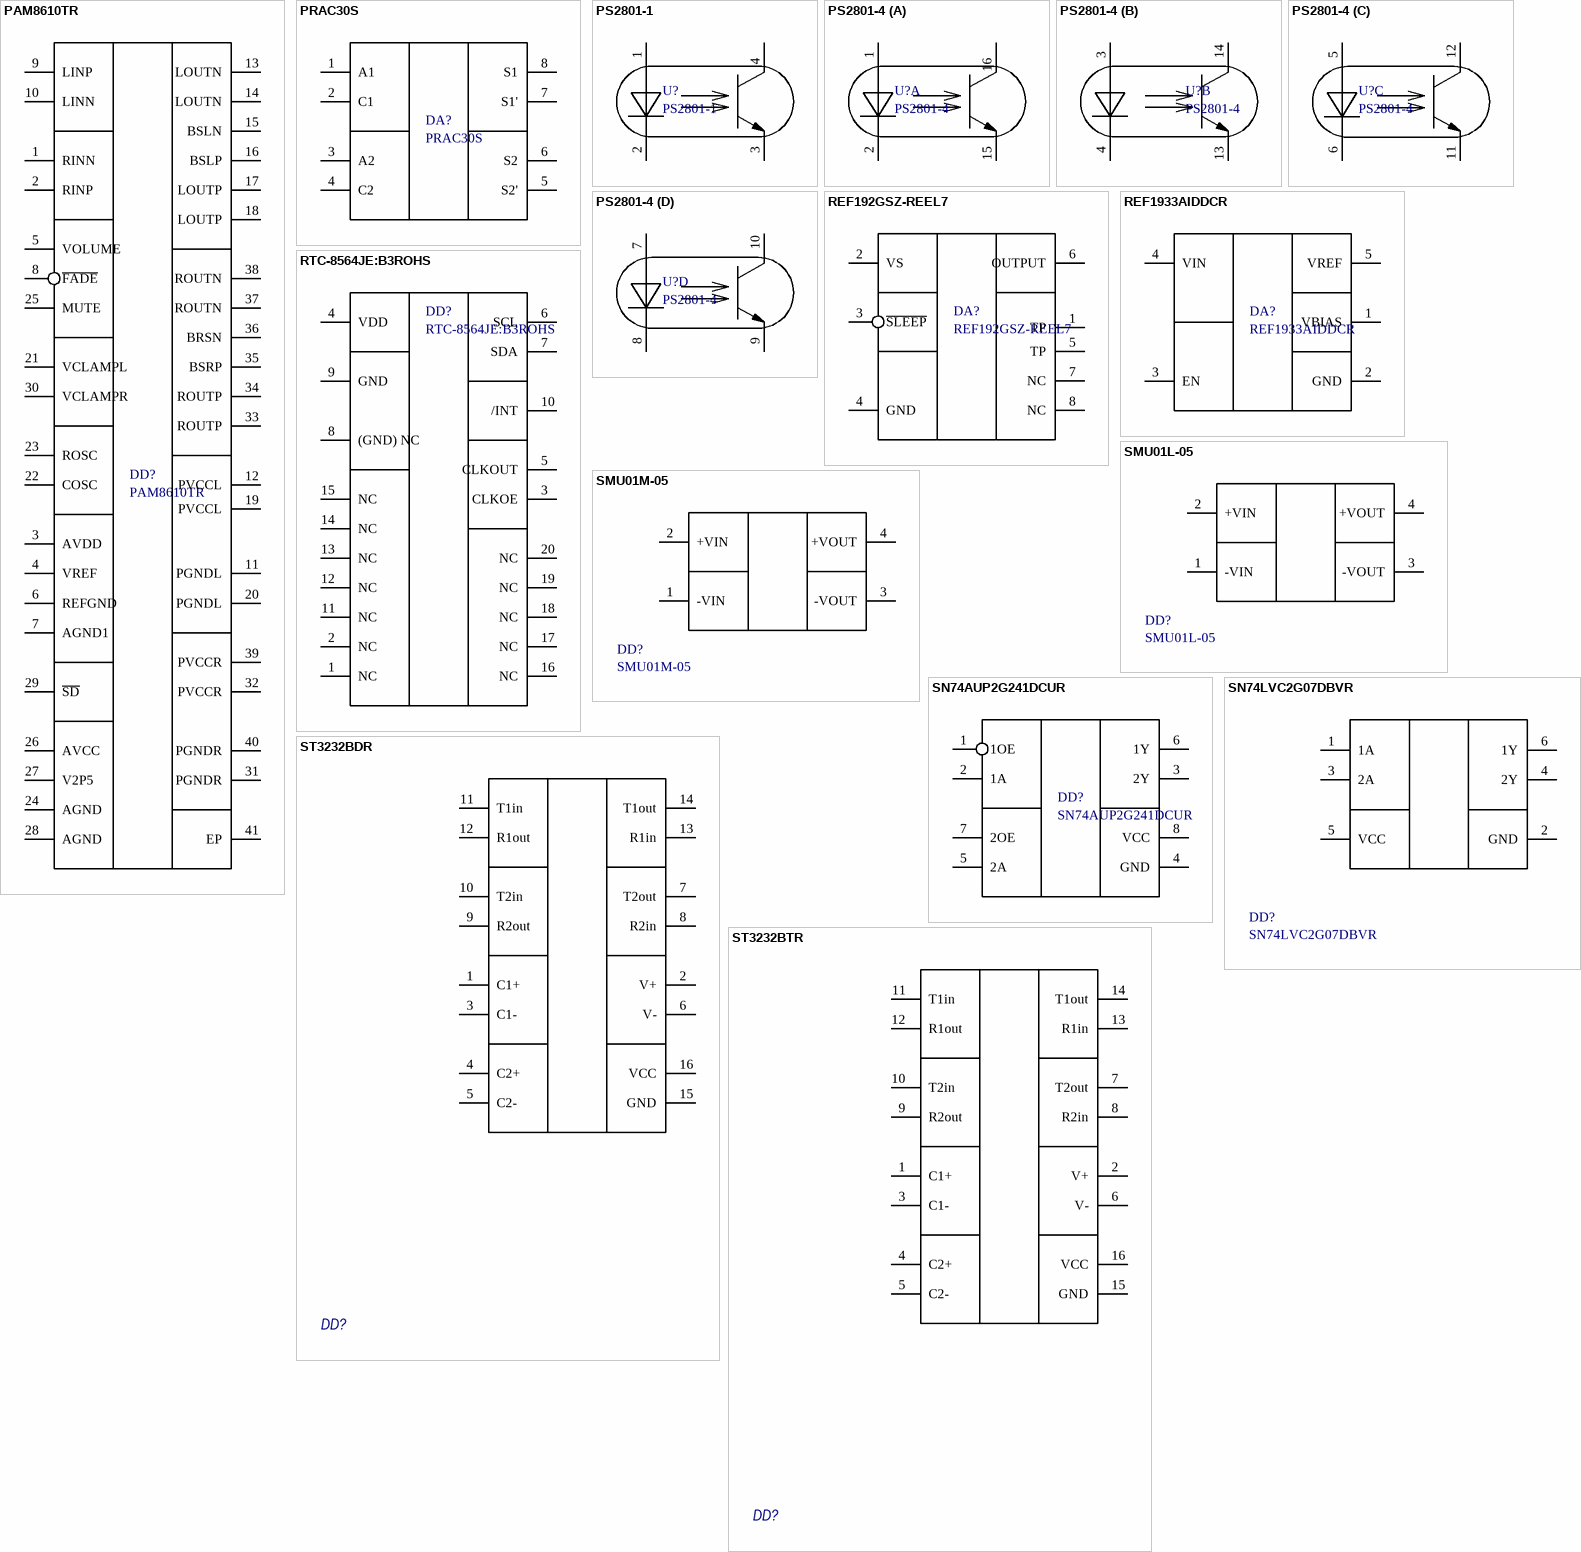
[diagram p6: symbols PAM8610TR to ST3232BTR]

## PAM8610TR
designator DD?
Stereo Class-D Audio Power Amplifier; Manufacturer: Diodes Inc; Part Number: PAM8610TR; Type: Audio
footprint QFN_610TR_DIO
pins: 1 RINN, 2 RINP, 3 AVDD, 4 VREF, 5 VOLUME, 6 REFGND, 7 AGND1, 8 ~{FADE}, 9 LINP, 10 LINN, 11 PGNDL, 12 PVCCL, 13 LOUTN, 14 LOUTN, 15 BSLN, 16 BSLP, 17 LOUTP, 18 LOUTP, 19 PVCCL, 20 PGNDL, 21 VCLAMPL, 22 COSC, 23 ROSC, 24 AGND, 25 MUTE, 26 AVCC, 27 V2P5, 28 AGND, 29 ~{SD}, 30 VCLAMPR, 31 PGNDR, 32 PVCCR, 33 ROUTP, 34 ROUTP, 35 BSRP, 36 BRSN, 37 ROUTN, 38 ROUTN, 39 PVCCR, 40 PGNDR, 41 EP

## PRAC30S
designator DA?
Opto Relay; Manufacturer: «Протон»; Part Number: PRAC30S; Type: Opto Relay
footprint SOP-8 PRAC30S (Footprint not found)
pins: 1 A1, 2 C1, 3 A2, 4 C2, 5 S2', 6 S2, 7 S1', 8 S1

## PS2801-1
designator U?
Optocoupler, Phototransistor; Manufacturer: RENESAS; Part Number: PS2801-1; Type: Optocoupler
footprint SSOP-4
pins: 1 A, 2 C, 3 C, 4 E

## PS2801-4
designator U?
Optocoupler, Phototransistor; Manufacturer: RENESAS; Part Number: PS2801-4; Type: Optocoupler
footprint SSOP-16 (Footprint not found)
part A pins: 1 A, 2 C, 15 C, 16 E
part B pins: 3 C, 4 A, 13 E, 14 C
part C pins: 5 A, 6 C, 11 C, 12 E
part D pins: 7 C, 8 A, 9 E, 10 C

## REF192GSZ-REEL7
designator DA?
Voltage References 2V5; Manufacturer: Analog Devices Inc; Part Number: REF192GSZ-REEL7; Type: Voltage References
footprint SOIC-8
pins: 1 TP, 2 VS, 3 ~{SLEEP}, 4 GND, 5 TP, 6 OUTPUT, 7 NC, 8 NC

## REF1933AIDDCR
designator DA?
Voltage References 3V3; Manufacturer: Texas Instruments; Part Number: REF1933AIDDCR; Type: Voltage References
footprint SOT23-5
pins: 1 VBIAS, 2 GND, 3 EN, 4 VIN, 5 VREF

## RTC-8564JE:B3ROHS
designator DD?
RTC; Manufacturer: Epson; Part Number: RTC-8564JE:B3ROHS; Type: RTC
footprint VSOJ-20
pins: 1 NC, 2 NC, 3 CLKOE, 4 VDD, 5 CLKOUT, 6 SCL, 7 SDA, 8 (GND) NC, 9 GND, 10 /INT, 11 NC, 12 NC, 13 NC, 14 NC, 15 NC, 16 NC, 17 NC, 18 NC, 19 NC, 20 NC

## SMU01L-05
designator DD?
Switching regulator, 5V; Manufacturer: MEAN WELL; Part Number: SMU01L-05; Type: ISO DC/DC
footprint TME-1W-SINGLE
pins: 1 -VIN (power), 2 +VIN (power), 3 -VOUT (power), 4 +VOUT (power)

## SMU01M-05
designator DD?
Switching regulator, 5V; Manufacturer: MEAN WELL; Part Number: SMU01M-05; Type: ISO DC/DC
footprint TME-1W-SINGLE
pins: 1 -VIN (power), 2 +VIN (power), 3 -VOUT (power), 4 +VOUT (power)

## SN74AUP2G241DCUR
designator DD?
Low-Power Dual Buffer/Driver With 3-State Outputs; Manufacturer: Texas Instruments; Part Number: SN74AUP2G241DCUR; Type: Dual Buffer/Driver
footprint DCU8
pins: 1 1OE, 2 1A, 3 2Y, 4 GND, 5 2A, 6 1Y, 7 2OE, 8 VCC

## SN74LVC2G07DBVR
designator DD?
Dual Buffer; Manufacturer: Texas Instruments; Part Number: SN74LVC2G07DBVR; Type: Logic
footprint DBV6
pins: 1 1A, 2 GND, 3 2A, 4 2Y, 5 VCC, 6 1Y

## ST3232BDR
designator DD?  (value not drawn)
3 to 5.5 V, low-power, up to 400 kbs RS-232 drivers and / receivers; Manufacturer: STMicroelectronics; Part Number: ST3232BDR; Type: Interface; ComponentLink1Description: Datasheet
footprint SOIC-16
pins: 1 C1+, 2 V+, 3 C1-, 4 C2+, 5 C2-, 6 V-, 7 T2out, 8 R2in, 9 R2out, 10 T2in, 11 T1in, 12 R1out, 13 R1in, 14 T1out, 15 GND, 16 VCC

## ST3232BTR
designator DD?  (value not drawn)
3 to 5.5 V, low-power, up to 400 kbs RS-232 drivers and / receivers; Manufacturer: STMicroelectronics; Part Number: ST3232BTR; Type: Interface; ComponentLink1Description: Datasheet
footprint TSOP16
pins: 1 C1+, 2 V+, 3 C1-, 4 C2+, 5 C2-, 6 V-, 7 T2out, 8 R2in, 9 R2out, 10 T2in, 11 T1in, 12 R1out, 13 R1in, 14 T1out, 15 GND, 16 VCC

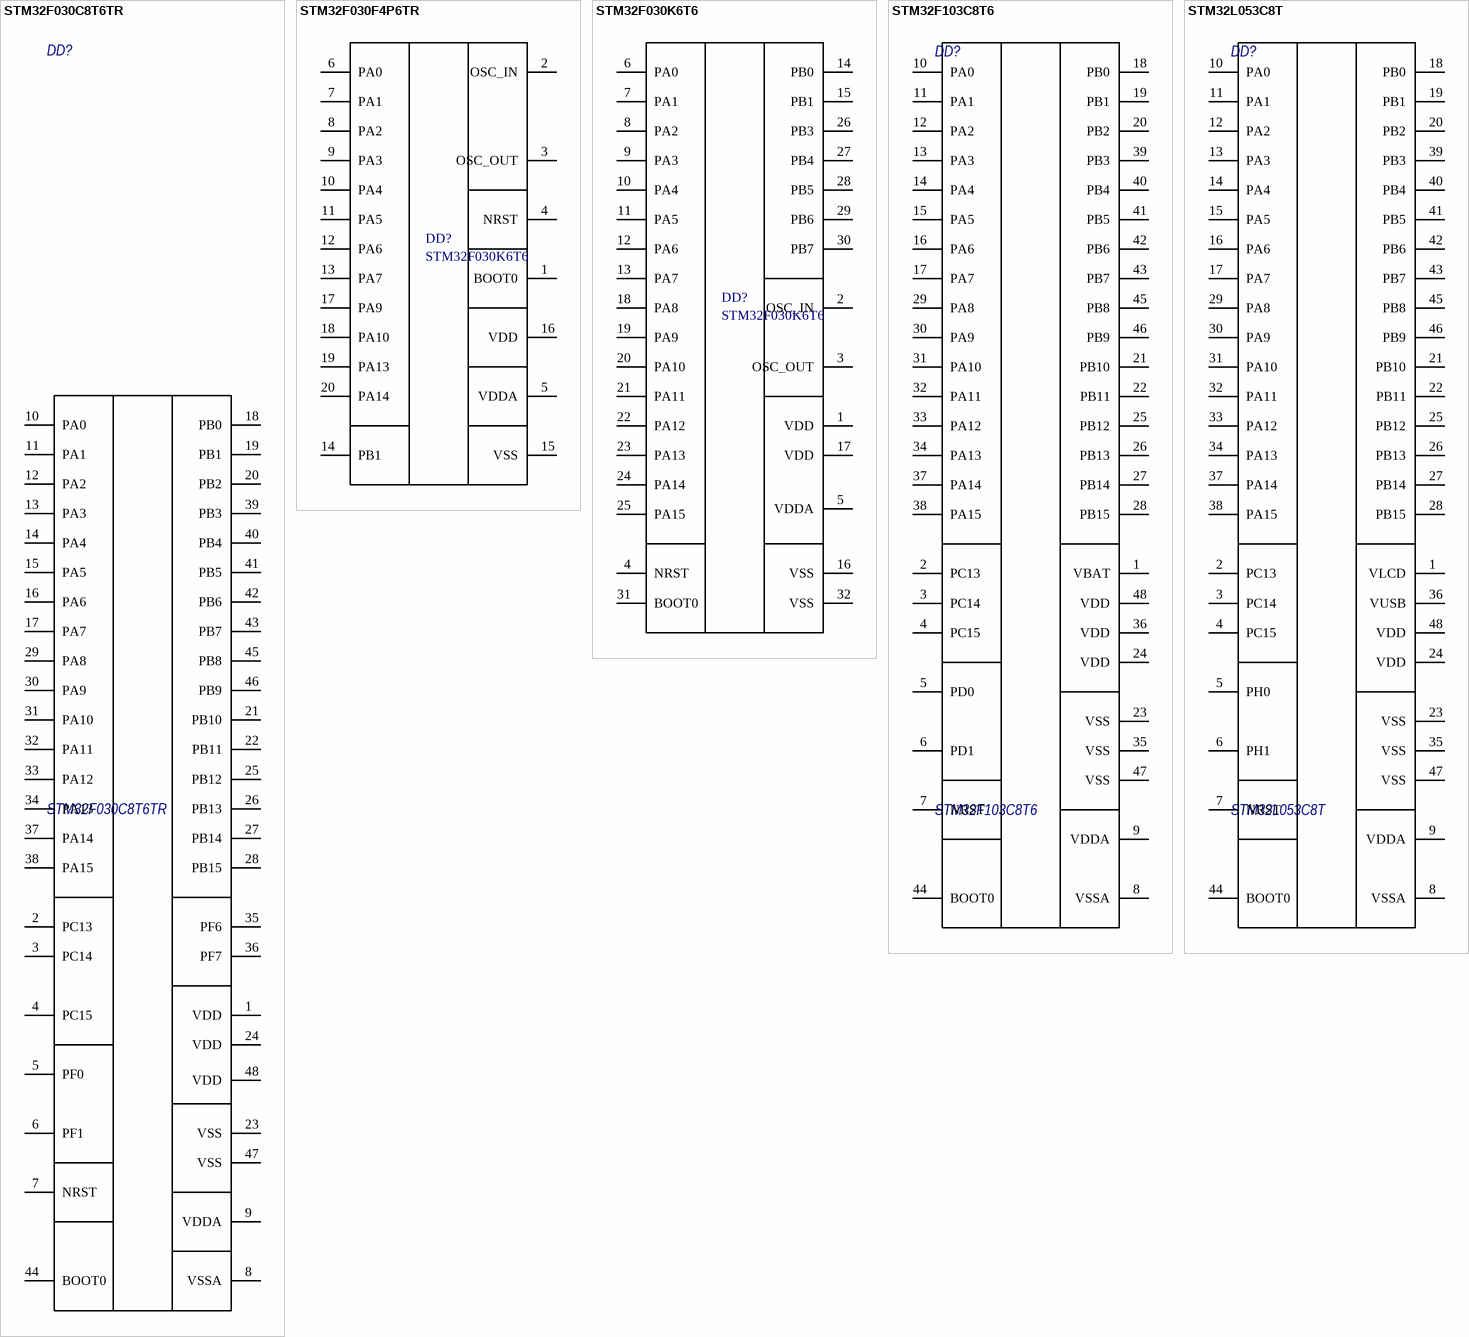
[diagram p7: symbols STM32F030C8T6TR to STM32L053C8T]

## STM32F030C8T6TR
designator DD?
Manufacturer: STMicroelectronics; Part Number: STM32F030C8T6TR; Type: MCU
footprint LQFP48
pins: 1 VDD, 2 PC13, 3 PC14, 4 PC15, 5 PF0, 6 PF1, 7 NRST, 8 VSSA, 9 VDDA, 10 PA0, 11 PA1, 12 PA2, 13 PA3, 14 PA4, 15 PA5, 16 PA6, 17 PA7, 18 PB0, 19 PB1, 20 PB2, 21 PB10, 22 PB11, 23 VSS, 24 VDD, 25 PB12, 26 PB13, 27 PB14, 28 PB15, 29 PA8, 30 PA9, 31 PA10, 32 PA11, 33 PA12, 34 PA13, 35 PF6, 36 PF7, 37 PA14, 38 PA15, 39 PB3, 40 PB4, 41 PB5, 42 PB6, 43 PB7, 44 BOOT0, 45 PB8, 46 PB9, 47 VSS, 48 VDD

## STM32F030F4P6TR
designator DD?, comment STM32F030K6T6
STM32F030F4P6TR; Manufacturer: STMicroelectronics; Part Number: STM32F030F4P6TR; Type: MCU
footprint TSSOP20
pins: 1 BOOT0, 2 OSC_IN, 3 OSC_OUT, 4 NRST, 5 VDDA, 6 PA0, 7 PA1, 8 PA2, 9 PA3, 10 PA4, 11 PA5, 12 PA6, 13 PA7, 14 PB1, 15 VSS, 16 VDD, 17 PA9, 18 PA10, 19 PA13, 20 PA14

## STM32F030K6T6
designator DD?
Manufacturer: STMicroelectronics; Part Number: STM32F030K6T6; Type: MCU
footprint LQFP32
pins: 1 VDD, 2 OSC_IN, 3 OSC_OUT, 4 NRST, 5 VDDA, 6 PA0, 7 PA1, 8 PA2, 9 PA3, 10 PA4, 11 PA5, 12 PA6, 13 PA7, 14 PB0, 15 PB1, 16 VSS, 17 VDD, 18 PA8, 19 PA9, 20 PA10, 21 PA11, 22 PA12, 23 PA13, 24 PA14, 25 PA15, 26 PB3, 27 PB4, 28 PB5, 29 PB6, 30 PB7, 31 BOOT0, 32 VSS

## STM32F103C8T6
designator DD?
Manufacturer: STMicroelectronics; Part Number: STM32F103C8T6; Type: MCU
footprint LQFP48
pins: 1 VBAT, 2 PC13, 3 PC14, 4 PC15, 5 PD0, 6 PD1, 7 NRST, 8 VSSA, 9 VDDA, 10 PA0, 11 PA1, 12 PA2, 13 PA3, 14 PA4, 15 PA5, 16 PA6, 17 PA7, 18 PB0, 19 PB1, 20 PB2, 21 PB10, 22 PB11, 23 VSS, 24 VDD, 25 PB12, 26 PB13, 27 PB14, 28 PB15, 29 PA8, 30 PA9, 31 PA10, 32 PA11, 33 PA12, 34 PA13, 35 VSS, 36 VDD, 37 PA14, 38 PA15, 39 PB3, 40 PB4, 41 PB5, 42 PB6, 43 PB7, 44 BOOT0, 45 PB8, 46 PB9, 47 VSS, 48 VDD

## STM32L053C8T
designator DD?
Manufacturer: STMicroelectronics; Part Number: STM32L053C8T; Type: MCU
footprint LQFP48
pins: 1 VLCD, 2 PC13, 3 PC14, 4 PC15, 5 PH0, 6 PH1, 7 NRST, 8 VSSA, 9 VDDA, 10 PA0, 11 PA1, 12 PA2, 13 PA3, 14 PA4, 15 PA5, 16 PA6, 17 PA7, 18 PB0, 19 PB1, 20 PB2, 21 PB10, 22 PB11, 23 VSS, 24 VDD, 25 PB12, 26 PB13, 27 PB14, 28 PB15, 29 PA8, 30 PA9, 31 PA10, 32 PA11, 33 PA12, 34 PA13, 35 VSS, 36 VUSB, 37 PA14, 38 PA15, 39 PB3, 40 PB4, 41 PB5, 42 PB6, 43 PB7, 44 BOOT0, 45 PB8, 46 PB9, 47 VSS, 48 VDD

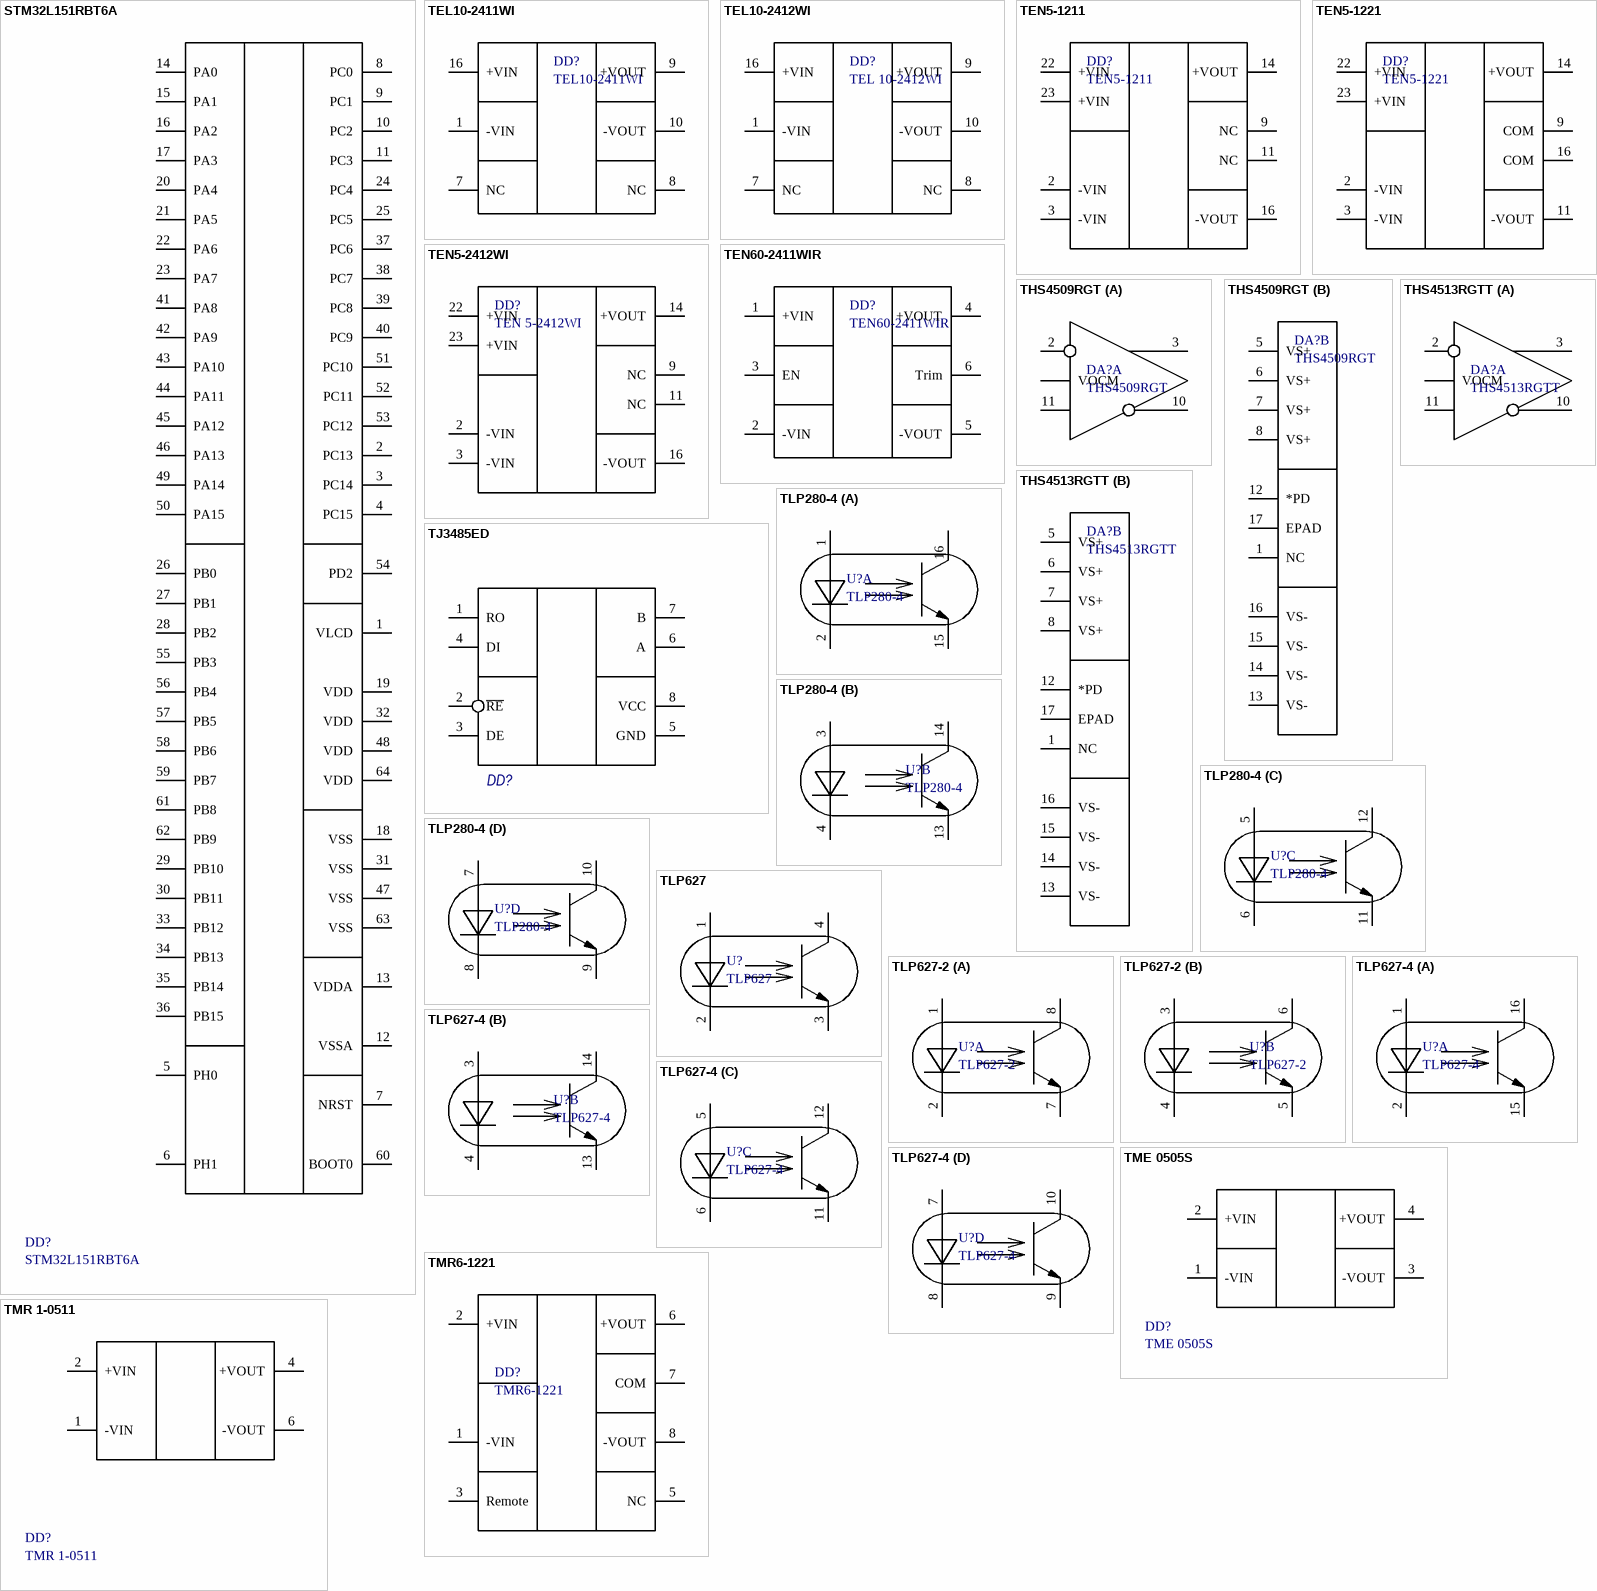
[diagram p8: symbols STM32L151RBT6A to TMR 1-0511]

## STM32L151RBT6A
designator DD?
Manufacturer: STMicroelectronics; Part Number: STM32L151RBT6A; Type: MCU
footprint LQFP64-10x10mm
pins: 1 VLCD (power), 2 PC13, 3 PC14, 4 PC15, 5 PH0, 6 PH1, 7 NRST, 8 PC0, 9 PC1, 10 PC2, 11 PC3, 12 VSSA (power), 13 VDDA (power), 14 PA0, 15 PA1, 16 PA2, 17 PA3, 18 VSS (power), 19 VDD (power), 20 PA4, 21 PA5, 22 PA6, 23 PA7, 24 PC4, 25 PC5, 26 PB0, 27 PB1, 28 PB2, 29 PB10, 30 PB11, 31 VSS (power), 32 VDD (power), 33 PB12, 34 PB13, 35 PB14, 36 PB15, 37 PC6, 38 PC7, 39 PC8, 40 PC9, 41 PA8, 42 PA9, 43 PA10, 44 PA11, 45 PA12, 46 PA13, 47 VSS (power), 48 VDD (power), 49 PA14, 50 PA15, 51 PC10, 52 PC11, 53 PC12, 54 PD2, 55 PB3, 56 PB4, 57 PB5, 58 PB6, 59 PB7, 60 BOOT0, 61 PB8, 62 PB9, 63 VSS (power), 64 VDD (power)

## TEL10-2411WI
designator DD?
Switching regulator, 24V to 5V; Manufacturer: Traco Power; Part Number: TEL10-2411WI; Type: ISO DC/DC
footprint TEL10
pins: 1 -VIN, 7 NC, 8 NC, 9 +VOUT, 10 -VOUT, 16 +VIN

## TEL10-2412WI
designator DD?, comment TEL 10-2412WI
Switching regulator, 24V to12V; Manufacturer: Traco Power; Part Number: TEL 10-2412WI; Type: ISO DC/DC
footprint TEL10
pins: 1 -VIN, 7 NC, 8 NC, 9 +VOUT, 10 -VOUT, 16 +VIN

## TEN5-1211
designator DD?
Switching regulator, 12V to 5V; Manufacturer: Traco Power; Part Number: TEN5-1211; Type: ISO DC/DC
footprint TEN5
pins: 2 -VIN, 3 -VIN, 9 NC, 11 NC, 14 +VOUT, 16 -VOUT, 22 +VIN, 23 +VIN

## TEN5-1221
designator DD?
Switching regulator, 12V to+-5V; Manufacturer: Traco Power; Part Number: TEN5-1221; Type: ISO DC/DC
footprint TEN5
pins: 2 -VIN, 3 -VIN, 9 COM, 11 -VOUT, 14 +VOUT, 16 COM, 22 +VIN, 23 +VIN

## TEN5-2412WI
designator DD?, comment TEN 5-2412WI
Switching regulator, 24V to 12V; Manufacturer: Traco Power; Part Number: TEN 5-2412WI; Type: ISO DC/DC
footprint TEN5
pins: 2 -VIN, 3 -VIN, 9 NC, 11 NC, 14 +VOUT, 16 -VOUT, 22 +VIN, 23 +VIN

## TEN60-2411WIR
designator DD?
Switching regulator, 24V to 5V; Manufacturer: Traco Power; Part Number: TEN60-2411WIR; Type: ISO DC/DC
footprint TEN60
pins: 1 +VIN, 2 -VIN, 3 EN, 4 +VOUT, 5 -VOUT, 6 Trim

## THS4509RGT
designator DA?
Fully Differential Amplifier; Manufacturer: Texas Instruments; Part Number: THS4509RGT; Type: FULLY DIFFERENTIAL AMPLIFIER
footprint VQFN(16)3x3
part A pins: 2 VIN-, 3 VOUT+, 4 CM, 9 VOCM, 10 VOUT-, 11 VIN+
part B pins: 1 NC, 5 VS+ (power), 6 VS+ (power), 7 VS+ (power), 8 VS+ (power), 12 *PD, 13 VS- (power), 14 VS- (power), 15 VS- (power), 16 VS- (power), 17 EPAD

## THS4513RGTT
designator DA?
Fully Differential Amplifier; Manufacturer: Texas Instruments; Part Number: THS4513RGTT; Type: FULLY DIFFERENTIAL AMPLIFIER
footprint VQFN(16)3x3
part A pins: 2 VIN-, 3 VOUT+, 4 CM, 9 VOCM, 10 VOUT-, 11 VIN+
part B pins: 1 NC, 5 VS+ (power), 6 VS+ (power), 7 VS+ (power), 8 VS+ (power), 12 *PD, 13 VS- (power), 14 VS- (power), 15 VS- (power), 16 VS- (power), 17 EPAD

## TJ3485ED
designator DD?
Low-Power, Slew-Rate-Limited RS-485/RS-422 Transceivers / receivers; Manufacturer: TAEJIN TECHNOLOGY; Part Number: TJ3485ED; Type: Interface; ComponentLink1Description: Datasheet
footprint SOIC-8
pins: 1 RO, 2 ~{RE}, 3 DE, 4 DI, 5 GND, 6 A, 7 B, 8 VCC

## TLP280-4
designator U?
Optocoupler, Phototransistor; Manufacturer: Toshiba; Part Number: TLP280-4; Type: Optocoupler
footprint SOP-16
part A pins: 1 A, 2 C, 15 C, 16 E
part B pins: 3 C, 4 A, 13 E, 14 C
part C pins: 5 A, 6 C, 11 C, 12 E
part D pins: 7 C, 8 A, 9 E, 10 C

## TLP627
designator U?
Optocoupler, Phototransistor; Manufacturer: Vishay; Part Number: TLP627; Type: Optocoupler
footprint DIP4
pins: 1 A, 2 C, 3 E, 4 C

## TLP627-2
designator U?
Optocoupler, Phototransistor; Manufacturer: Vishay; Part Number: TLP627-2; Type: Optocoupler
footprint DIP8
part A pins: 1 A, 2 C, 7 E, 8 C
part B pins: 3 C, 4 A, 5 E, 6 C

## TLP627-4
designator U?
Optocoupler, Phototransistor; Manufacturer: Vishay; Part Number: TLP627-4; Type: Optocoupler
footprint DIP16
part A pins: 1 A, 2 C, 15 C, 16 E
part B pins: 3 C, 4 A, 13 E, 14 C
part C pins: 5 A, 6 C, 11 C, 12 E
part D pins: 7 A, 8 C, 9 E, 10 C

## TME 0505S
designator DD?
Switching regulator, 5V; Manufacturer: Traco Power; Part Number: TME 0505S; Type: ISO DC/DC
footprint TME-1W-SINGLE
pins: 1 -VIN (power), 2 +VIN (power), 3 -VOUT (power), 4 +VOUT (power)

## TMR6-1221
designator DD?
Switching regulator, 12V to+-5V; Manufacturer: Traco Power; Part Number: TMR6-1221; Type: ISO DC/DC
footprint TMR2
pins: 1 -VIN, 2 +VIN, 3 Remote, 5 NC, 6 +VOUT, 7 COM, 8 -VOUT

## TMR 1-0511
designator DD?
Manufacturer: Traco Power; Part Number: TMR 1-0511; Type: ISO DC/DC
footprint TMR1-SINGLE_TRP
pins: 1 -VIN, 2 +VIN, 4 +VOUT, 6 -VOUT

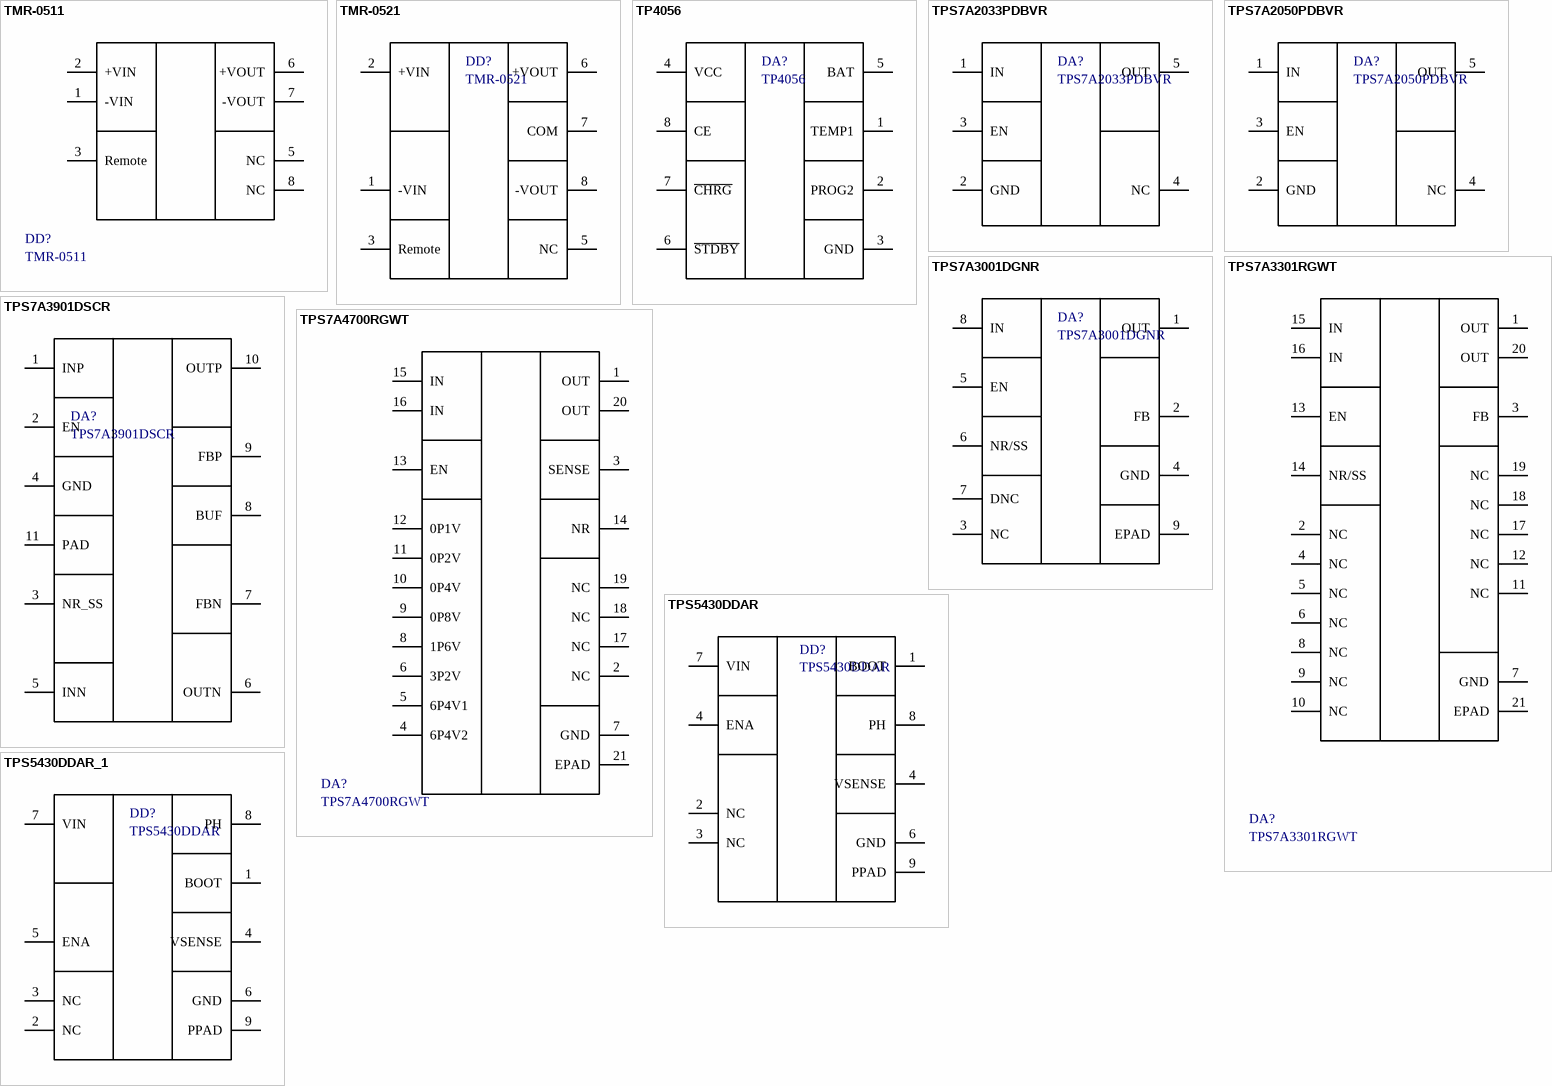
[diagram p9: symbols TMR-0511 to TPS5430DDAR_1]

## TMR-0511
designator DD?
Switching regulator, 5V; Manufacturer: Traco Power; Part Number: TMR-0511; Type: ISO DC/DC
footprint TMR2
pins: 1 -VIN, 2 +VIN, 3 Remote, 5 NC, 6 +VOUT, 7 -VOUT, 8 NC

## TMR-0521
designator DD?
Switching regulator, +-5V; Manufacturer: Traco Power; Part Number: TMR-0521; Type: ISO DC/DC
footprint TMR2
pins: 1 -VIN, 2 +VIN, 3 Remote, 5 NC, 6 +VOUT, 7 COM, 8 -VOUT

## TP4056
designator DA?
Linear Li-lon Battery Charger; Manufacturer: NanJing; Part Number: TP4056; Type: Linear Li-lon Battery Charger
footprint SOIC-8
pins: 1 TEMP1, 2 PROG2, 3 GND, 4 VCC, 5 BAT, 6 ~{STDBY}, 7 ~{CHRG}, 8 CE

## TPS7A2033PDBVR
designator DA?
Linear regulator, 3V3; Manufacturer: Texas Instruments; Part Number: TPS7A2033PDBVR; Type: Linear regulator
footprint SOT23-5
pins: 1 IN, 2 GND, 3 EN, 4 NC, 5 OUT

## TPS7A2050PDBVR
designator DA?
Linear regulator, 5V; Manufacturer: Texas Instruments; Part Number: TPS7A2050PDBVR; Type: Linear regulator
footprint SOT23-5
pins: 1 IN, 2 GND, 3 EN, 4 NC, 5 OUT

## TPS7A3001DGNR
designator DA?
Negative Linear regulator, ADJ; Manufacturer: Texas Instruments; Part Number: TPS7A3001DGNR; Type: Linear regulator
footprint TSSOP8_PP
pins: 1 OUT, 2 FB, 3 NC, 4 GND, 5 EN, 6 NR/SS, 7 DNC, 8 IN, 9 EPAD

## TPS7A3301RGWT
designator DA?
Negative Linear regulator, ADJ; Manufacturer: Texas Instruments; Part Number: TPS7A3301RGWT; Type: Linear regulator
footprint VQFN(20)5x5
pins: 1 OUT, 2 NC, 3 FB, 4 NC, 5 NC, 6 NC, 7 GND, 8 NC, 9 NC, 10 NC, 11 NC, 12 NC, 13 EN, 14 NR/SS, 15 IN, 16 IN, 17 NC, 18 NC, 19 NC, 20 OUT, 21 EPAD

## TPS7A3901DSCR
designator DA?
Dual Linear regulator, ADJ; Manufacturer: Texas Instruments; Type: Linear regulator; Part Number: TPS7A3901DSCR
footprint WSON-12_3x3
pins: 1 INP, 2 EN, 3 NR_SS, 4 GND, 5 INN, 6 OUTN, 7 FBN, 8 BUF, 9 FBP, 10 OUTP, 11 PAD

## TPS7A4700RGWT
designator DA?
Linear regulator, ADJ; Manufacturer: Texas Instruments; Part Number: TPS7A4700RGWT; Type: Linear regulator
footprint VQFN(20)5x5
pins: 1 OUT, 2 NC, 3 SENSE, 4 6P4V2, 5 6P4V1, 6 3P2V, 7 GND, 8 1P6V, 9 0P8V, 10 0P4V, 11 0P2V, 12 0P1V, 13 EN, 14 NR, 15 IN, 16 IN, 17 NC, 18 NC, 19 NC, 20 OUT, 21 EPAD

## TPS5430DDAR
designator DD?
Switching regulator, Buck, ADJ; Manufacturer: Texas Instruments; Part Number: TPS5430DDAR; Type: Switching regulator
footprint SOIC-8_PP (Footprint not found)
pins: 1 BOOT, 2 NC, 3 NC, 4 ENA, 4 VSENSE, 6 GND, 7 VIN, 8 PH, 9 PPAD

## TPS5430DDAR_1
designator DD?, comment TPS5430DDAR
Switching regulator, ADJ; Manufacturer: Texas Instruments; Part Number: TPS5430DDAR; Type: Switching regulator
footprint SOIC-8_PP
pins: 1 BOOT, 2 NC, 3 NC, 4 VSENSE, 5 ENA, 6 GND, 7 VIN, 8 PH, 9 PPAD

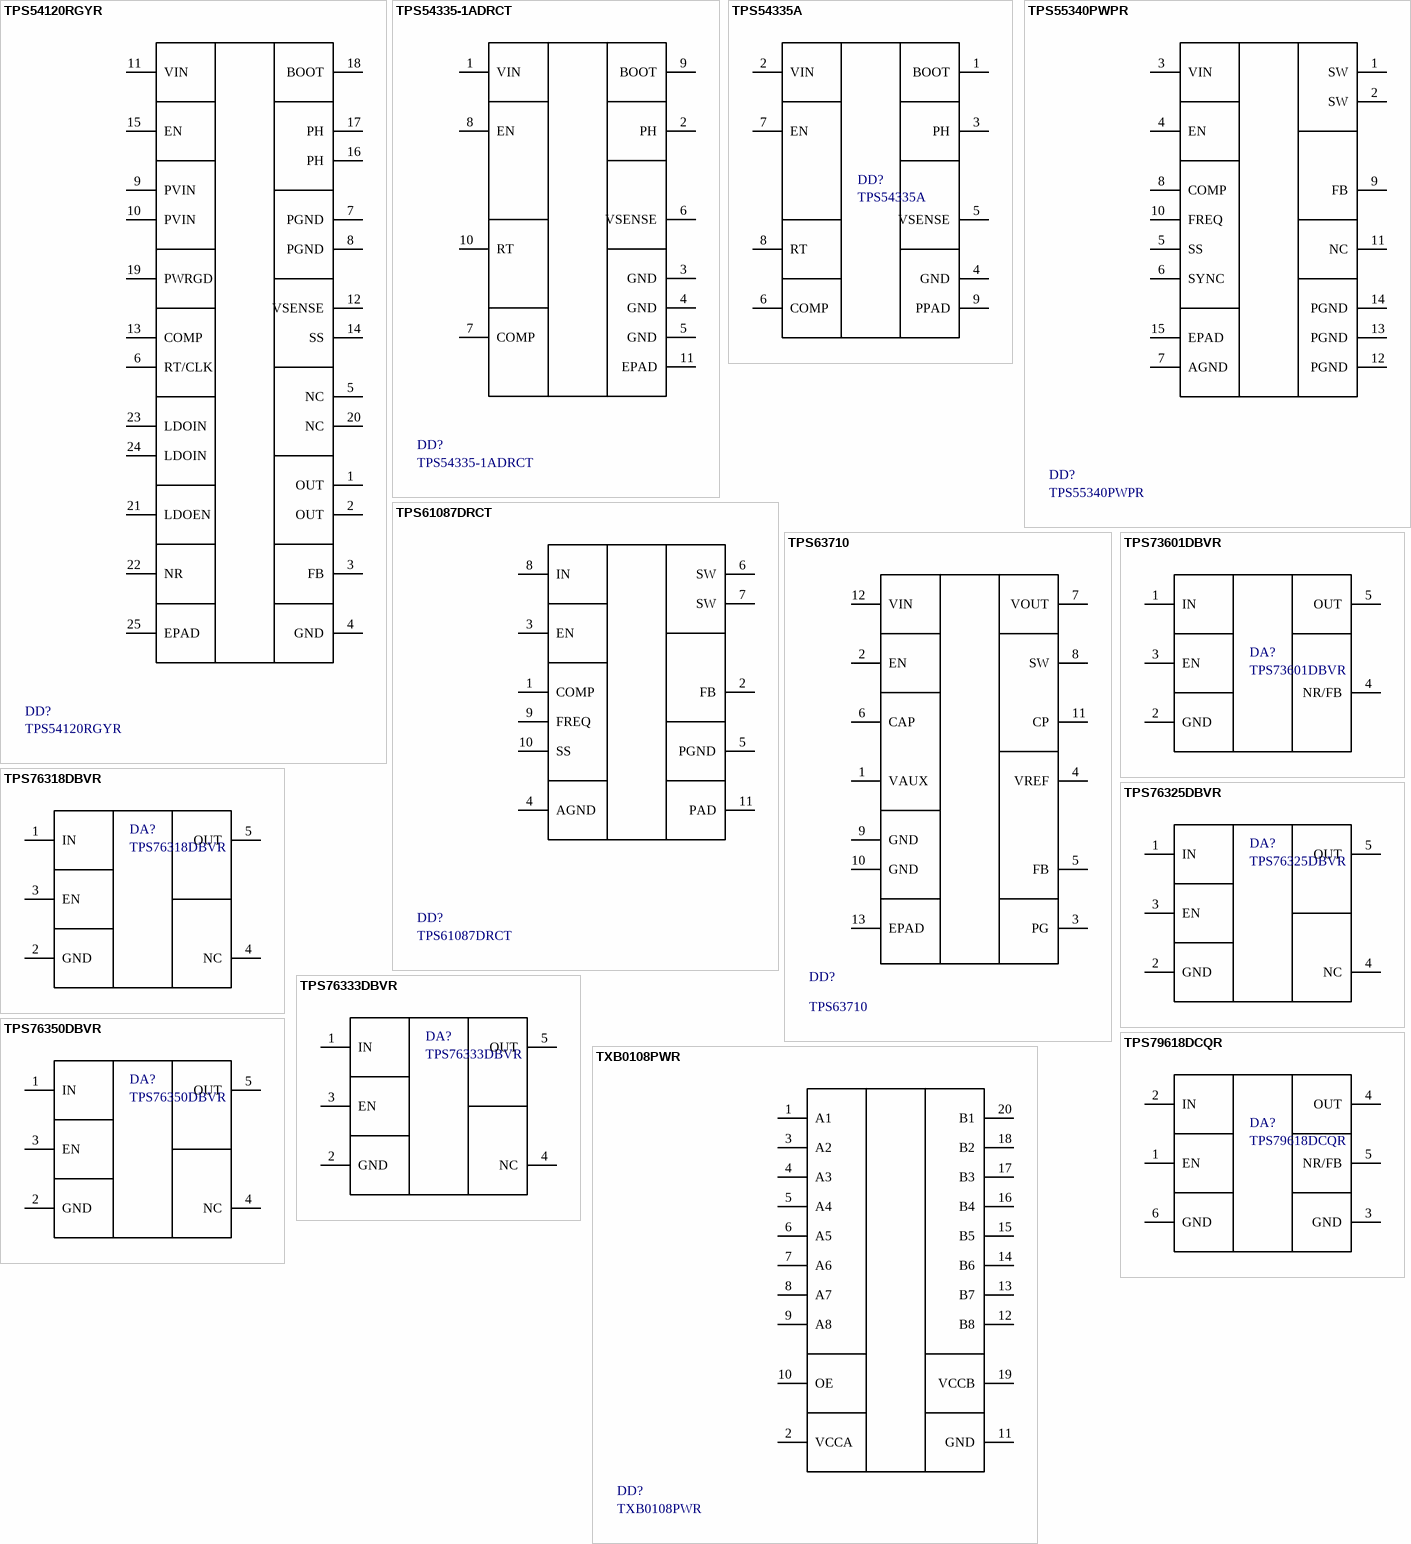
[diagram p10: symbols TPS54120RGYR to TXB0108PWR]

## TPS54120RGYR
designator DD?
Switching regulator ADJ; Manufacturer: Texas Instruments; Part Number: TPS54120RGYR; Type: Switching regulator
footprint RGY24_2P05X3P1_TEX
pins: 1 OUT, 2 OUT, 3 FB, 4 GND, 5 NC, 6 RT/CLK, 7 PGND, 8 PGND, 9 PVIN, 10 PVIN, 11 VIN, 12 VSENSE, 13 COMP, 14 SS, 15 EN, 16 PH, 17 PH, 18 BOOT, 19 PWRGD, 20 NC, 21 LDOEN, 22 NR, 23 LDOIN, 24 LDOIN, 25 EPAD

## TPS54335-1ADRCT
designator DD?
Switching regulator, ADJ; Manufacturer: Texas Instruments; Part Number: TPS54335-1ADRCT; Type: Switching regulator
footprint DRC10_1P65X2P40_TEX
pins: 1 VIN, 2 PH, 3 GND, 4 GND, 5 GND, 6 VSENSE, 7 COMP, 8 EN, 9 BOOT, 10 RT, 11 EPAD

## TPS54335A
designator DD?
Switching regulator, ADJ; Manufacturer: Texas Instruments; Part Number: TPS54335A; Type: Switching regulator
footprint SOIC-8_PP (Footprint not found)
pins: 1 BOOT, 2 VIN, 3 PH, 4 GND, 5 VSENSE, 6 COMP, 7 EN, 8 RT, 9 PPAD

## TPS55340PWPR
designator DD?
Switching regulator ADJ; Manufacturer: Texas Instruments; Part Number: TPS55340PWPR; Type: Switching regulator
footprint TSSOP-14_5X4.4
pins: 1 SW, 2 SW, 3 VIN, 4 EN, 5 SS, 6 SYNC, 7 AGND (power), 8 COMP, 9 FB, 10 FREQ, 11 NC, 12 PGND (power), 13 PGND (power), 14 PGND (power), 15 EPAD

## TPS61087DRCT
designator DD?
Switching regulator ADJ; Part Number: TPS61087DRCR; Manufacturer: Texas Instruments; Type: Switching regulator
footprint DRC0010J
pins: 1 COMP, 2 FB, 3 EN, 4 AGND, 5 PGND, 6 SW, 7 SW, 8 IN, 9 FREQ, 10 SS, 11 PAD

## TPS63710
designator DD?
Buck Switching Regulator Negative Adjustable; Manufacturer: Texas Instruments; Part Number: TPS63710; Type: Switching regulator
footprint WSON-12_3X3
pins: 1 VAUX, 2 EN, 3 PG, 4 VREF, 5 FB, 6 CAP, 7 VOUT, 8 SW, 9 GND (power), 10 GND (power), 11 CP, 12 VIN, 13 EPAD (power)

## TPS73601DBVR
designator DA?
Linear regulator, ADJ; Manufacturer: Texas Instruments; Part Number: TPS73601DBVR; Type: Linear regulator
footprint DBV5
pins: 1 IN, 2 GND, 3 EN, 4 NR/FB, 5 OUT

## TPS76318DBVR
designator DA?
Linear regulator, 1V8; Manufacturer: Texas Instruments; Part Number: TPS76318DBVR; Type: Linear regulator
footprint SOT23-5
pins: 1 IN, 2 GND, 3 EN, 4 NC, 5 OUT

## TPS76325DBVR
designator DA?
Linear regulator, 2V5; Manufacturer: Texas Instruments; Part Number: TPS76325DBVR; Type: Linear regulator
footprint SOT23-5
pins: 1 IN, 2 GND, 3 EN, 4 NC, 5 OUT

## TPS76333DBVR
designator DA?
Linear regulator, 3V3; Manufacturer: Texas Instruments; Part Number: TPS76333DBVR; Type: Linear regulator
footprint SOT23-5
pins: 1 IN, 2 GND, 3 EN, 4 NC, 5 OUT

## TPS76350DBVR
designator DA?
Linear regulator, 5V; Manufacturer: Texas Instruments; Part Number: TPS76350DBVR; Type: Linear regulator
footprint SOT23-5
pins: 1 IN, 2 GND, 3 EN, 4 NC, 5 OUT

## TPS79618DCQR
designator DA?
No Description Available; Manufacturer: Texas Instruments; Part Number: TPS79618DCQR; Type: Linear regulator
footprint SOT-223-6 (Footprint not found)
pins: 1 EN, 2 IN, 3 GND, 4 OUT, 5 NR/FB, 6 GND

## TXB0108PWR
designator DD?
Bidirectional Voltage-Level Translator; Manufacturer: Texas Instruments; Type: Logic; Part Number: TXB0108PWR
footprint PW0020A_N
pins: 1 A1, 2 VCCA, 3 A2, 4 A3, 5 A4, 6 A5, 7 A6, 8 A7, 9 A8, 10 OE, 11 GND, 12 B8, 13 B7, 14 B6, 15 B5, 16 B4, 17 B3, 18 B2, 19 VCCB, 20 B1

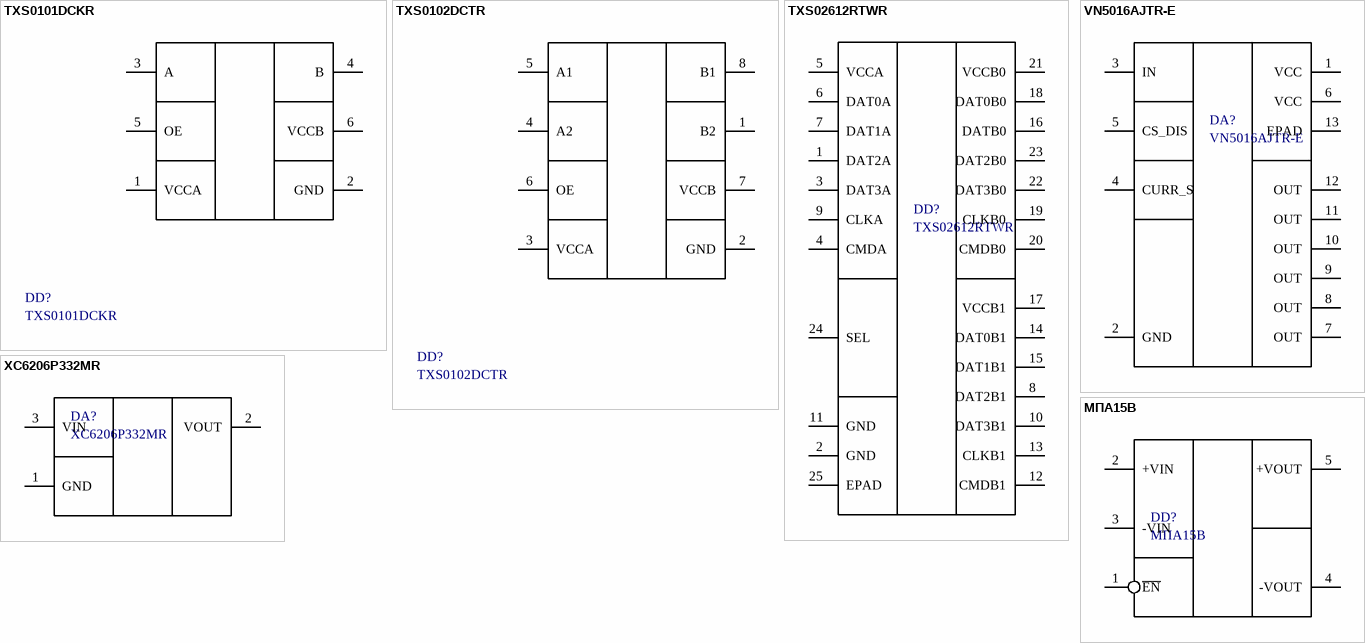
[diagram p11: symbols TXS0101DCKR to МПА15В]

## TXS0101DCKR
designator DD?
Bidirectional Voltage-Level Translator; Manufacturer: Texas Instruments; Part Number: TXS0101DCKR; Type: Logic
footprint DCK0006A_N
pins: 1 VCCA, 2 GND, 3 A, 4 B, 5 OE, 6 VCCB

## TXS0102DCTR
designator DD?
Bidirectional Voltage-Level Translator; Manufacturer: Texas Instruments; Part Number: TXS0102DCTR; Type: Logic
footprint DCT8
pins: 1 B2, 2 GND, 3 VCCA, 4 A2, 5 A1, 6 OE, 7 VCCB, 8 B1

## TXS02612RTWR
designator DD?
SDIO PORT EXPANDER WITH VOLTAGE-LEVEL TRANSLATION; Manufacturer: Texas Instruments; Part Number: TXS02612RTWR; Type: Logic
footprint RTW24_2P45X2P45
pins: 1 DAT2A, 2 GND, 3 DAT3A, 4 CMDA, 5 VCCA, 6 DAT0A, 7 DAT1A, 8 DAT2B1, 9 CLKA, 10 DAT3B1, 11 GND, 12 CMDB1, 13 CLKB1, 14 DAT0B1, 15 DAT1B1, 16 DATB0, 17 VCCB1, 18 DAT0B0, 19 CLKB0, 20 CMDB0, 21 VCCB0, 22 DAT3B0, 23 DAT2B0, 24 SEL, 25 EPAD

## VN5016AJTR-E
designator DA?
High Current Power Switch; Manufacturer: STMicroelectronics; Part Number: VN5016AJTR-E; Type: Power Switch
footprint PowerSSO-12
pins: 1 VCC, 2 GND, 3 IN, 4 CURR_S, 5 CS_DIS, 6 VCC, 7 OUT, 8 OUT, 9 OUT, 10 OUT, 11 OUT, 12 OUT, 13 EPAD

## XC6206P332MR
designator DA?
Linear regulator, 3V3; Manufacturer: TOREX; Part Number: XC6206P332MR; Type: Linear regulator
footprint SOT23-3
pins: 1 GND, 2 VOUT, 3 VIN

## МПА15В
designator DD?
Switching regulator, 12V; Manufacturer: ИРБИС; Part Number: МПА15В; Type: ISO DC/DC
footprint МПА15В
pins: 1 ~{EN}, 2 +VIN, 3 -VIN, 4 -VOUT, 5 +VOUT